# Altium schematic symbol library Module DC To DC.SchLib: 178 symbols (part 1 of 2)
Pins are listed as number, name and electrical type; pins without a type are passive.

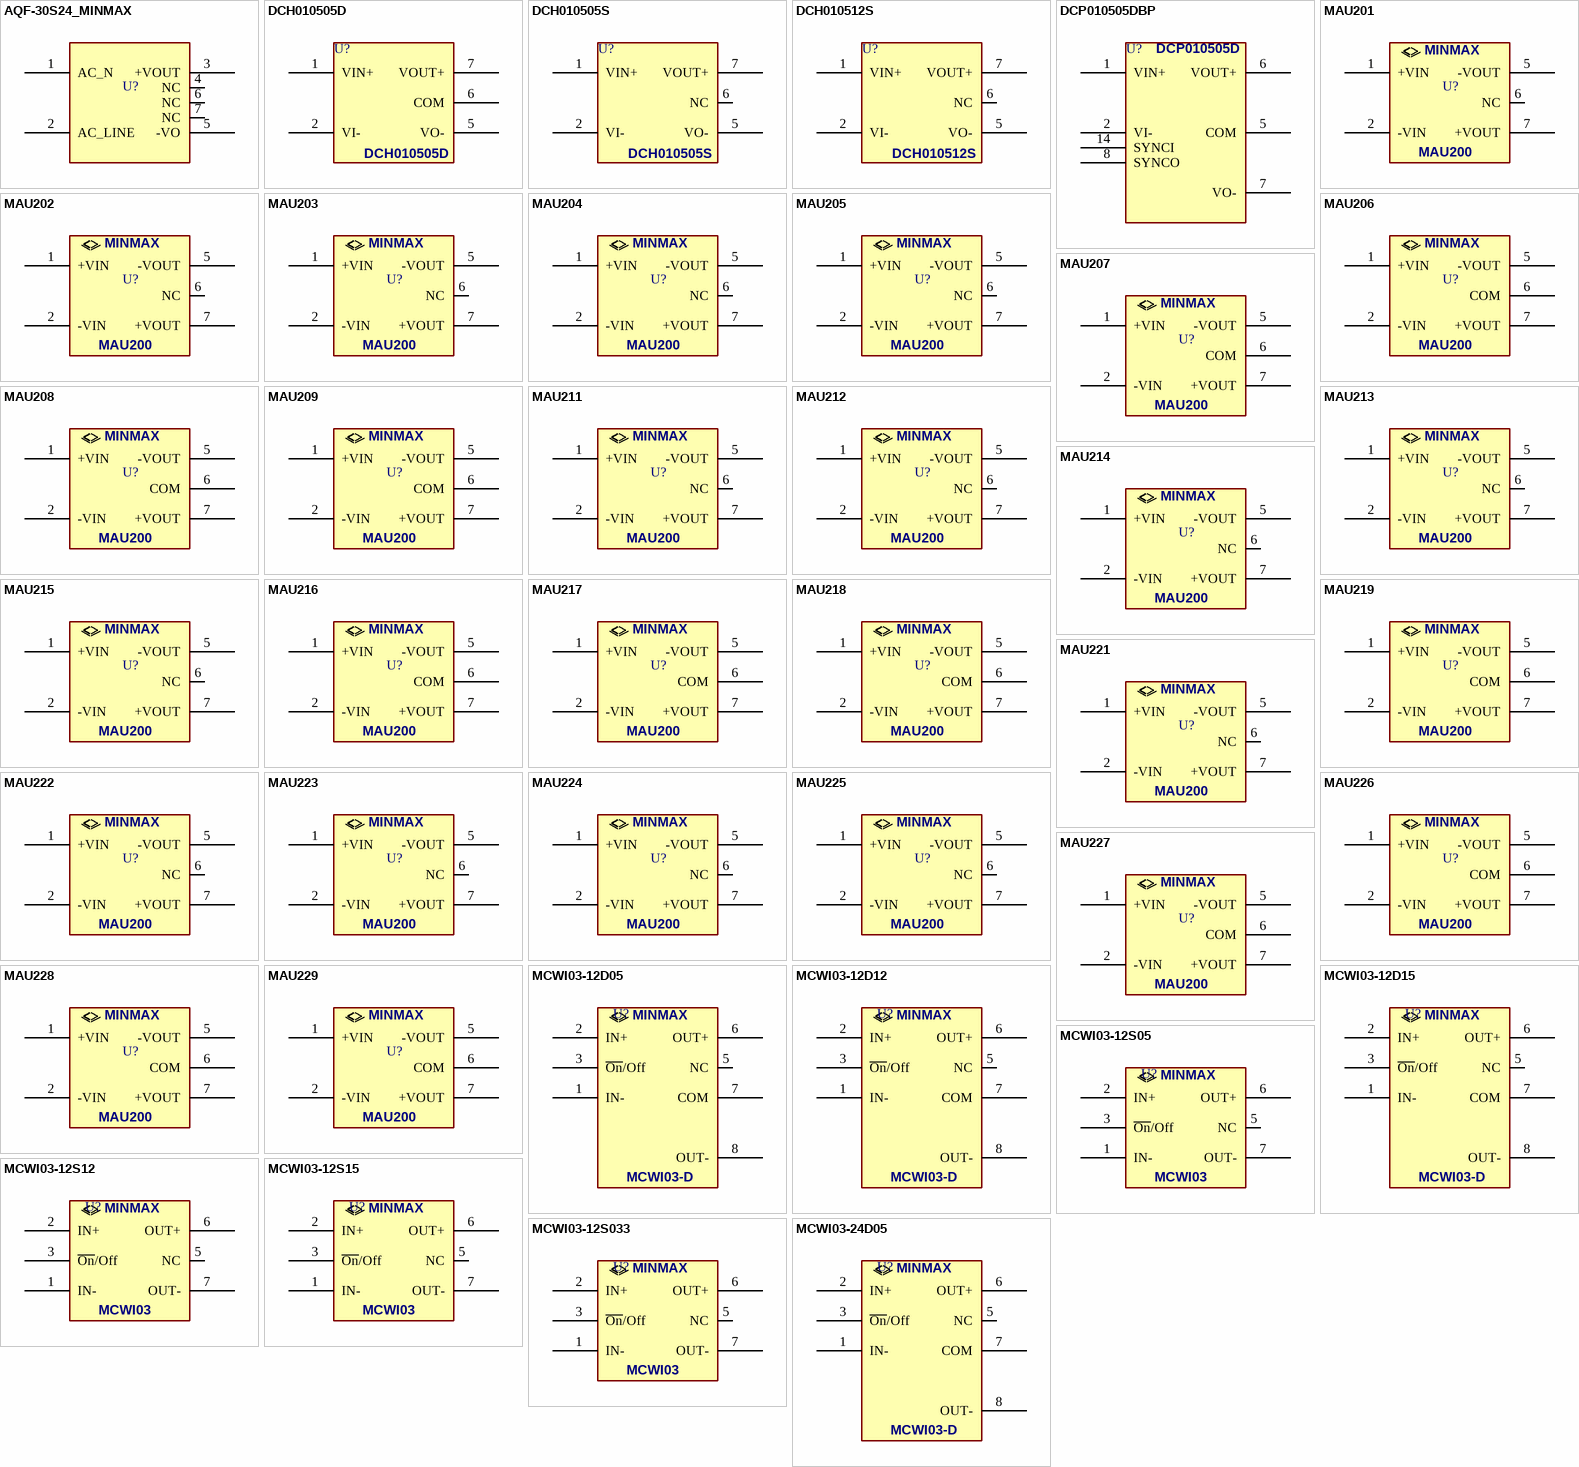
[diagram p0: symbols AQF-30S24_MINMAX to MCWI03-24D05]

## AQF-30S24_MINMAX
designator U?, comment AQF-30S24  (value not drawn)
AC/DC CONVERTER, no terminal; MANF: MINMAX; PARAM2: 24v, 30w; MANF_P#: AQF-30S24; VALUE: AQF-30S24
footprint MINMAX_AQF30 (DC-DC Module, AQF-30)
pins: 1 AC_N (power), 2 AC_LINE (power), 3 +VOUT (power), 4 NC (power), 5 -VO (power), 6 NC (power), 7 NC (power)

## DCH010505D
designator U?  (value not drawn)
DC-DC Converter, Isolated, 1W; MANF: Texas Instruments; DIST#: MOUSER/595-DCH010505SN7; PARAM2: 5Vin, ±5Vout, 1W; PARAM: ±100mA, -40~85°C; PRICE: 1= 7$; VALUE: DCH010505D; MANF_P#: DCH010505D
footprint EDJ_5 (EDJ R-PDSS-T5 TI 10X7.6mm)
pins: 1 VIN+ (power), 2 VI- (power), 5 VO- (power), 6 COM (power), 7 VOUT+ (power)

## DCH010505S
designator U?  (value not drawn)
DC-DC Converter, Isolated, 1W; MANF: Texas Instruments; DIST#: MOUSER/595-DCH010505SN7; MANF_P#: DCH010505SN7; PARAM2: 5Vin, 5Vout, 1W; PARAM: 200mA, -40~85°C; PRICE: 1= 7$; VALUE: DCH010505S
footprint EDJ_5 (EDJ R-PDSS-T5 TI 10X7.6mm)
pins: 1 VIN+ (power), 2 VI- (power), 5 VO- (power), 6 NC (power), 7 VOUT+ (power)

## DCH010512S
designator U?  (value not drawn)
DC-DC Converter, Isolated, 1W; MANF: Texas Instruments; DIST#: MOUSER/595-DCH010505SN7; PARAM2: 5Vin, 12Vout, 1W; PARAM: 83mA, -40~85°C; PRICE: 1= 7$; VALUE: DCH010512S; MANF_P#: DCH010512S
footprint EDJ_5 (EDJ R-PDSS-T5 TI 10X7.6mm)
pins: 1 VIN+ (power), 2 VI- (power), 5 VO- (power), 6 NC (power), 7 VOUT+ (power)

## DCP010505DBP
designator U?  (value not drawn)
DC-DC Converter, Isolated, 1W; MANF: Texas Instruments; DIST#: MOUSER/595-DCH010505SN7; PARAM2: 5Vin, ±5Vout, 1W; PARAM: ±100mA, -40~85°C; PRICE: 9$; VALUE: DCP010505DBP; MANF_P#: DCP010505DBP
footprint DIP_14_7 (DIP, pitch 2.54mm, 300mil Width)
pins: 1 VIN+ (power), 2 VI- (power), 5 COM (power), 6 VOUT+ (power), 7 VO- (power), 8 SYNCO, 14 SYNCI
text: DCP010505D

## MAU201
designator U?  (value not drawn)
DC-DC Converter, Isolated, 1W; MANF: MINMAX; PARAM2: 4.5~5.5(5)Vin, 3.3Vout, 1W; PARAM: 260mA, -40~85°C; DESC: https://www.minmax.com.tw/cn/download/files/228/MAU200_Datasheet.pdf; MANF_P#: MAU201; VALUE: MAU201
footprint MINMAX_MAU200 (DC-DC Module, MAU200)
pins: 1 +VIN, 2 -VIN, 5 -VOUT, 6 NC, 7 +VOUT
text: MAU200

## MAU202
designator U?  (value not drawn)
DC-DC Converter, Isolated, 1W; MANF: MINMAX; PARAM2: 4.5~5.5(5)Vin, 5Vout, 1W; PARAM: 200mA, -40~85°C; DESC: https://www.minmax.com.tw/cn/download/files/228/MAU200_Datasheet.pdf; MANF_P#: MAU202; VALUE: MAU202
footprint MINMAX_MAU200 (DC-DC Module, MAU200)
pins: 1 +VIN, 2 -VIN, 5 -VOUT, 6 NC, 7 +VOUT
text: MAU200

## MAU203
designator U?  (value not drawn)
DC-DC Converter, Isolated, 1W; MANF: MINMAX; PARAM2: 4.5~5.5(5)Vin, 9Vout, 1W; PARAM: 110mA, -40~85°C; DESC: https://www.minmax.com.tw/cn/download/files/228/MAU200_Datasheet.pdf; MANF_P#: MAU203; VALUE: MAU203
footprint MINMAX_MAU200 (DC-DC Module, MAU200)
pins: 1 +VIN, 2 -VIN, 5 -VOUT, 6 NC, 7 +VOUT
text: MAU200

## MAU204
designator U?  (value not drawn)
DC-DC Converter, Isolated, 1W; MANF: MINMAX; PARAM2: 4.5~5.5(5)Vin, 12Vout, 1W; PARAM: 84mA, -40~85°C; DESC: https://www.minmax.com.tw/cn/download/files/228/MAU200_Datasheet.pdf; MANF_P#: MAU204; VALUE: MAU204
footprint MINMAX_MAU200 (DC-DC Module, MAU200)
pins: 1 +VIN, 2 -VIN, 5 -VOUT, 6 NC, 7 +VOUT
text: MAU200

## MAU205
designator U?  (value not drawn)
DC-DC Converter, Isolated, 1W; MANF: MINMAX; PARAM2: 4.5~5.5(5)Vin, 15Vout, 1W; PARAM: 67mA, -40~85°C; DESC: https://www.minmax.com.tw/cn/download/files/228/MAU200_Datasheet.pdf; MANF_P#: MAU205; VALUE: MAU205
footprint MINMAX_MAU200 (DC-DC Module, MAU200)
pins: 1 +VIN, 2 -VIN, 5 -VOUT, 6 NC, 7 +VOUT
text: MAU200

## MAU206
designator U?  (value not drawn)
DC-DC Converter, Isolated, 1W; MANF: MINMAX; PARAM2: 4.5~5.5(5)Vin, ±5Vout, 1W; PARAM: ±100mA, -40~85°C; DESC: https://www.minmax.com.tw/cn/download/files/228/MAU200_Datasheet.pdf; MANF_P#: MAU206; VALUE: MAU206
footprint MINMAX_MAU200 (DC-DC Module, MAU200)
pins: 1 +VIN, 2 -VIN, 5 -VOUT, 6 COM, 7 +VOUT
text: MAU200

## MAU207
designator U?  (value not drawn)
DC-DC Converter, Isolated, 1W; MANF: MINMAX; PARAM2: 4.5~5.5(5)Vin, ±9Vout, 1W; PARAM: ±56mA, -40~85°C; DESC: https://www.minmax.com.tw/cn/download/files/228/MAU200_Datasheet.pdf; MANF_P#: MAU207; VALUE: MAU207
footprint MINMAX_MAU200 (DC-DC Module, MAU200)
pins: 1 +VIN, 2 -VIN, 5 -VOUT, 6 COM, 7 +VOUT
text: MAU200

## MAU208
designator U?  (value not drawn)
DC-DC Converter, Isolated, 1W; MANF: MINMAX; PARAM2: 4.5~5.5(5)Vin, ±12Vout, 1W; PARAM: ±42mA, -40~85°C; DESC: https://www.minmax.com.tw/cn/download/files/228/MAU200_Datasheet.pdf; MANF_P#: MAU208; VALUE: MAU208
footprint MINMAX_MAU200 (DC-DC Module, MAU200)
pins: 1 +VIN, 2 -VIN, 5 -VOUT, 6 COM, 7 +VOUT
text: MAU200

## MAU209
designator U?  (value not drawn)
DC-DC Converter, Isolated, 1W; MANF: MINMAX; PARAM2: 4.5~5.5(5)Vin, ±15Vout, 1W; PARAM: ±34mA, -40~85°C; DESC: https://www.minmax.com.tw/cn/download/files/228/MAU200_Datasheet.pdf; MANF_P#: MAU209; VALUE: MAU209
footprint MINMAX_MAU200 (DC-DC Module, MAU200)
pins: 1 +VIN, 2 -VIN, 5 -VOUT, 6 COM, 7 +VOUT
text: MAU200

## MAU211
designator U?  (value not drawn)
DC-DC Converter, Isolated, 1W; MANF: MINMAX; PARAM2: 10.8~13.2(12)Vin, 3.3Vout, 1W; PARAM: 260mA, -40~85°C; DESC: https://www.minmax.com.tw/cn/download/files/228/MAU200_Datasheet.pdf; MANF_P#: MAU211; VALUE: MAU211
footprint MINMAX_MAU200 (DC-DC Module, MAU200)
pins: 1 +VIN, 2 -VIN, 5 -VOUT, 6 NC, 7 +VOUT
text: MAU200

## MAU212
designator U?  (value not drawn)
DC-DC Converter, Isolated, 1W; MANF: MINMAX; PARAM2: 10.8~13.2(12)Vin, 5Vout, 1W; PARAM: 200mA, -40~85°C; DESC: https://www.minmax.com.tw/cn/download/files/228/MAU200_Datasheet.pdf; MANF_P#: MAU212; VALUE: MAU212
footprint MINMAX_MAU200 (DC-DC Module, MAU200)
pins: 1 +VIN, 2 -VIN, 5 -VOUT, 6 NC, 7 +VOUT
text: MAU200

## MAU213
designator U?  (value not drawn)
DC-DC Converter, Isolated, 1W; MANF: MINMAX; PARAM2: 10.8~13.2(12)Vin, 9Vout, 1W; PARAM: 110mA, -40~85°C; DESC: https://www.minmax.com.tw/cn/download/files/228/MAU200_Datasheet.pdf; MANF_P#: MAU213; VALUE: MAU213
footprint MINMAX_MAU200 (DC-DC Module, MAU200)
pins: 1 +VIN, 2 -VIN, 5 -VOUT, 6 NC, 7 +VOUT
text: MAU200

## MAU214
designator U?  (value not drawn)
DC-DC Converter, Isolated, 1W; MANF: MINMAX; PARAM2: 10.8~13.2(12)Vin, 12Vout, 1W; PARAM: 84mA, -40~85°C; DESC: https://www.minmax.com.tw/cn/download/files/228/MAU200_Datasheet.pdf; MANF_P#: MAU214; VALUE: MAU214
footprint MINMAX_MAU200 (DC-DC Module, MAU200)
pins: 1 +VIN, 2 -VIN, 5 -VOUT, 6 NC, 7 +VOUT
text: MAU200

## MAU215
designator U?  (value not drawn)
DC-DC Converter, Isolated, 1W; MANF: MINMAX; PARAM2: 10.8~13.2(12)Vin, 15Vout, 1W; PARAM: 67mA, -40~85°C; DESC: https://www.minmax.com.tw/cn/download/files/228/MAU200_Datasheet.pdf; MANF_P#: MAU215; VALUE: MAU215
footprint MINMAX_MAU200 (DC-DC Module, MAU200)
pins: 1 +VIN, 2 -VIN, 5 -VOUT, 6 NC, 7 +VOUT
text: MAU200

## MAU216
designator U?  (value not drawn)
DC-DC Converter, Isolated, 1W; MANF: MINMAX; PARAM2: 10.8~13.2(12)Vin, ±5Vout, 1W; PARAM: ±100mA, -40~85°C; DESC: https://www.minmax.com.tw/cn/download/files/228/MAU200_Datasheet.pdf; MANF_P#: MAU216; VALUE: MAU216
footprint MINMAX_MAU200 (DC-DC Module, MAU200)
pins: 1 +VIN, 2 -VIN, 5 -VOUT, 6 COM, 7 +VOUT
text: MAU200

## MAU217
designator U?  (value not drawn)
DC-DC Converter, Isolated, 1W; MANF: MINMAX; PARAM2: 10.8~13.2(12)Vin, ±9Vout, 1W; PARAM: ±56mA, -40~85°C; DESC: https://www.minmax.com.tw/cn/download/files/228/MAU200_Datasheet.pdf; MANF_P#: MAU217; VALUE: MAU217
footprint MINMAX_MAU200 (DC-DC Module, MAU200)
pins: 1 +VIN, 2 -VIN, 5 -VOUT, 6 COM, 7 +VOUT
text: MAU200

## MAU218
designator U?  (value not drawn)
DC-DC Converter, Isolated, 1W; MANF: MINMAX; PARAM2: 10.8~13.2(12)Vin, ±12Vout, 1W; PARAM: ±42mA, -40~85°C; DESC: https://www.minmax.com.tw/cn/download/files/228/MAU200_Datasheet.pdf; MANF_P#: MAU218; VALUE: MAU218
footprint MINMAX_MAU200 (DC-DC Module, MAU200)
pins: 1 +VIN, 2 -VIN, 5 -VOUT, 6 COM, 7 +VOUT
text: MAU200

## MAU219
designator U?  (value not drawn)
DC-DC Converter, Isolated, 1W; MANF: MINMAX; PARAM2: 10.8~13.2(12)Vin, ±15Vout, 1W; PARAM: ±34mA, -40~85°C; DESC: https://www.minmax.com.tw/cn/download/files/228/MAU200_Datasheet.pdf; MANF_P#: MAU219; VALUE: MAU219
footprint MINMAX_MAU200 (DC-DC Module, MAU200)
pins: 1 +VIN, 2 -VIN, 5 -VOUT, 6 COM, 7 +VOUT
text: MAU200

## MAU221
designator U?  (value not drawn)
DC-DC Converter, Isolated, 1W; MANF: MINMAX; PARAM2: 21.6~26.4(24)Vin, 3.3Vout, 1W; PARAM: 260mA, -40~85°C; DESC: https://www.minmax.com.tw/cn/download/files/228/MAU200_Datasheet.pdf; MANF_P#: MAU221; VALUE: MAU221
footprint MINMAX_MAU200 (DC-DC Module, MAU200)
pins: 1 +VIN, 2 -VIN, 5 -VOUT, 6 NC, 7 +VOUT
text: MAU200

## MAU222
designator U?  (value not drawn)
DC-DC Converter, Isolated, 1W; MANF: MINMAX; PARAM2: 21.6~26.4(24)Vin, 5Vout, 1W; PARAM: 200mA, -40~85°C; DESC: https://www.minmax.com.tw/cn/download/files/228/MAU200_Datasheet.pdf; MANF_P#: MAU222; VALUE: MAU222
footprint MINMAX_MAU200 (DC-DC Module, MAU200)
pins: 1 +VIN, 2 -VIN, 5 -VOUT, 6 NC, 7 +VOUT
text: MAU200

## MAU223
designator U?  (value not drawn)
DC-DC Converter, Isolated, 1W; MANF: MINMAX; PARAM2: 21.6~26.4(24)Vin, 9Vout, 1W; PARAM: 110mA, -40~85°C; DESC: https://www.minmax.com.tw/cn/download/files/228/MAU200_Datasheet.pdf; MANF_P#: MAU223; VALUE: MAU223
footprint MINMAX_MAU200 (DC-DC Module, MAU200)
pins: 1 +VIN, 2 -VIN, 5 -VOUT, 6 NC, 7 +VOUT
text: MAU200

## MAU224
designator U?  (value not drawn)
DC-DC Converter, Isolated, 1W; MANF: MINMAX; PARAM2: 21.6~26.4(24)Vin, 12Vout, 1W; PARAM: 84mA, -40~85°C; DESC: https://www.minmax.com.tw/cn/download/files/228/MAU200_Datasheet.pdf; MANF_P#: MAU224; VALUE: MAU224
footprint MINMAX_MAU200 (DC-DC Module, MAU200)
pins: 1 +VIN, 2 -VIN, 5 -VOUT, 6 NC, 7 +VOUT
text: MAU200

## MAU225
designator U?  (value not drawn)
DC-DC Converter, Isolated, 1W; MANF: MINMAX; PARAM2: 21.6~26.4(24)Vin, 15Vout, 1W; PARAM: 67mA, -40~85°C; DESC: https://www.minmax.com.tw/cn/download/files/228/MAU200_Datasheet.pdf; MANF_P#: MAU225; VALUE: MAU225
footprint MINMAX_MAU200 (DC-DC Module, MAU200)
pins: 1 +VIN, 2 -VIN, 5 -VOUT, 6 NC, 7 +VOUT
text: MAU200

## MAU226
designator U?  (value not drawn)
DC-DC Converter, Isolated, 1W; MANF: MINMAX; PARAM2: 21.6~26.4(24)Vin, ±5Vout, 1W; PARAM: ±100mA, -40~85°C; DESC: https://www.minmax.com.tw/cn/download/files/228/MAU200_Datasheet.pdf; MANF_P#: MAU226; VALUE: MAU226
footprint MINMAX_MAU200 (DC-DC Module, MAU200)
pins: 1 +VIN, 2 -VIN, 5 -VOUT, 6 COM, 7 +VOUT
text: MAU200

## MAU227
designator U?  (value not drawn)
DC-DC Converter, Isolated, 1W; MANF: MINMAX; PARAM2: 21.6~26.4(24)Vin, ±9Vout, 1W; PARAM: ±56mA, -40~85°C; DESC: https://www.minmax.com.tw/cn/download/files/228/MAU200_Datasheet.pdf; MANF_P#: MAU227; VALUE: MAU227
footprint MINMAX_MAU200 (DC-DC Module, MAU200)
pins: 1 +VIN, 2 -VIN, 5 -VOUT, 6 COM, 7 +VOUT
text: MAU200

## MAU228
designator U?  (value not drawn)
DC-DC Converter, Isolated, 1W; MANF: MINMAX; PARAM2: 21.6~26.4(24)Vin, ±12Vout, 1W; PARAM: ±42mA, -40~85°C; DESC: https://www.minmax.com.tw/cn/download/files/228/MAU200_Datasheet.pdf; MANF_P#: MAU228; VALUE: MAU228
footprint MINMAX_MAU200 (DC-DC Module, MAU200)
pins: 1 +VIN, 2 -VIN, 5 -VOUT, 6 COM, 7 +VOUT
text: MAU200

## MAU229
designator U?  (value not drawn)
DC-DC Converter, Isolated, 1W; MANF: MINMAX; PARAM2: 21.6~26.4(24)Vin, ±15Vout, 1W; PARAM: ±34mA, -40~85°C; DESC: https://www.minmax.com.tw/cn/download/files/228/MAU200_Datasheet.pdf; MANF_P#: MAU229; VALUE: MAU229
footprint MINMAX_MAU200 (DC-DC Module, MAU200)
pins: 1 +VIN, 2 -VIN, 5 -VOUT, 6 COM, 7 +VOUT
text: MAU200

## MCWI03-12D05
designator U?  (value not drawn)
DC-DC Converter, Isolated, 3W; MANF: MINMAX; PARAM2: 4.5~18(12)Vin, ±5Vout, 3W; PARAM: ±300mA, -40~85°C; DESC: https://www.minmax.com.tw/en/download/files/307/MCWI03_Datasheet.pdf; MANF_P#: MCWI03-12D05; VALUE: MCWI03-12D05
footprint MINMAX_MCWI03
pins: 1 IN- (power), 2 IN+ (power), 3 ~{On}/Off, 5 NC (power), 6 OUT+ (power), 7 COM (power), 8 OUT- (power)
text: MCWI03-D

## MCWI03-12D12
designator U?  (value not drawn)
DC-DC Converter, Isolated, 3W; MANF: MINMAX; PARAM2: 4.5~18(12)Vin, ±12Vout, 3W; PARAM: ±125mA, -40~85°C; DESC: https://www.minmax.com.tw/en/download/files/307/MCWI03_Datasheet.pdf; MANF_P#: MCWI03-12D12; VALUE: MCWI03-12D12
footprint MINMAX_MCWI03
pins: 1 IN- (power), 2 IN+ (power), 3 ~{On}/Off, 5 NC (power), 6 OUT+ (power), 7 COM (power), 8 OUT- (power)
text: MCWI03-D

## MCWI03-12D15
designator U?  (value not drawn)
DC-DC Converter, Isolated, 3W; MANF: MINMAX; PARAM2: 4.5~18(12)Vin, ±15Vout, 3W; PARAM: ±100mA, -40~85°C; DESC: https://www.minmax.com.tw/en/download/files/307/MCWI03_Datasheet.pdf; MANF_P#: MCWI03-12D15; VALUE: MCWI03-12D15
footprint MINMAX_MCWI03
pins: 1 IN- (power), 2 IN+ (power), 3 ~{On}/Off, 5 NC (power), 6 OUT+ (power), 7 COM (power), 8 OUT- (power)
text: MCWI03-D

## MCWI03-12S05
designator U?  (value not drawn)
DC-DC Converter, Isolated, 3W; MANF: MINMAX; PARAM2: 4.5~18(12)Vin, 5Vout, 3W; PARAM: 600mA, -40~85°C; DESC: https://www.minmax.com.tw/en/download/files/307/MCWI03_Datasheet.pdf; MANF_P#: MCWI03-12S05; VALUE: MCWI03-12S05
footprint MINMAX_MCWI03
pins: 1 IN- (power), 2 IN+ (power), 3 ~{On}/Off, 5 NC (power), 6 OUT+ (power), 7 OUT- (power)
text: MCWI03

## MCWI03-12S12
designator U?  (value not drawn)
DC-DC Converter, Isolated, 3W; MANF: MINMAX; PARAM2: 4.5~18(12)Vin, 12Vout, 3W; PARAM: 250mA, -40~85°C; DESC: https://www.minmax.com.tw/en/download/files/307/MCWI03_Datasheet.pdf; MANF_P#: MCWI03-12S12; VALUE: MCWI03-12S12
footprint MINMAX_MCWI03
pins: 1 IN- (power), 2 IN+ (power), 3 ~{On}/Off, 5 NC (power), 6 OUT+ (power), 7 OUT- (power)
text: MCWI03

## MCWI03-12S15
designator U?  (value not drawn)
DC-DC Converter, Isolated, 3W; MANF: MINMAX; PARAM2: 4.5~18(12)Vin, 15Vout, 3W; PARAM: 200mA, -40~85°C; DESC: https://www.minmax.com.tw/en/download/files/307/MCWI03_Datasheet.pdf; MANF_P#: MCWI03-12S15; VALUE: MCWI03-12S15
footprint MINMAX_MCWI03
pins: 1 IN- (power), 2 IN+ (power), 3 ~{On}/Off, 5 NC (power), 6 OUT+ (power), 7 OUT- (power)
text: MCWI03

## MCWI03-12S033
designator U?  (value not drawn)
DC-DC Converter, Isolated, 3W; MANF: MINMAX; PARAM2: 4.5~18(12)Vin, 3.3Vout, 3W; PARAM: 700mA, -40~85°C; DESC: https://www.minmax.com.tw/en/download/files/307/MCWI03_Datasheet.pdf; MANF_P#: MCWI03-12S033; VALUE: MCWI03-12S033
footprint MINMAX_MCWI03
pins: 1 IN- (power), 2 IN+ (power), 3 ~{On}/Off, 5 NC (power), 6 OUT+ (power), 7 OUT- (power)
text: MCWI03

## MCWI03-24D05
designator U?  (value not drawn)
DC-DC Converter, Isolated, 3W; MANF: MINMAX; PARAM2: 9~36(24)Vin, ±5Vout, 3W; PARAM: ±300mA, -40~85°C; DESC: https://www.minmax.com.tw/en/download/files/307/MCWI03_Datasheet.pdf; MANF_P#: MCWI03-24D05; VALUE: MCWI03-24D05
footprint MINMAX_MCWI03
pins: 1 IN- (power), 2 IN+ (power), 3 ~{On}/Off, 5 NC (power), 6 OUT+ (power), 7 COM (power), 8 OUT- (power)
text: MCWI03-D

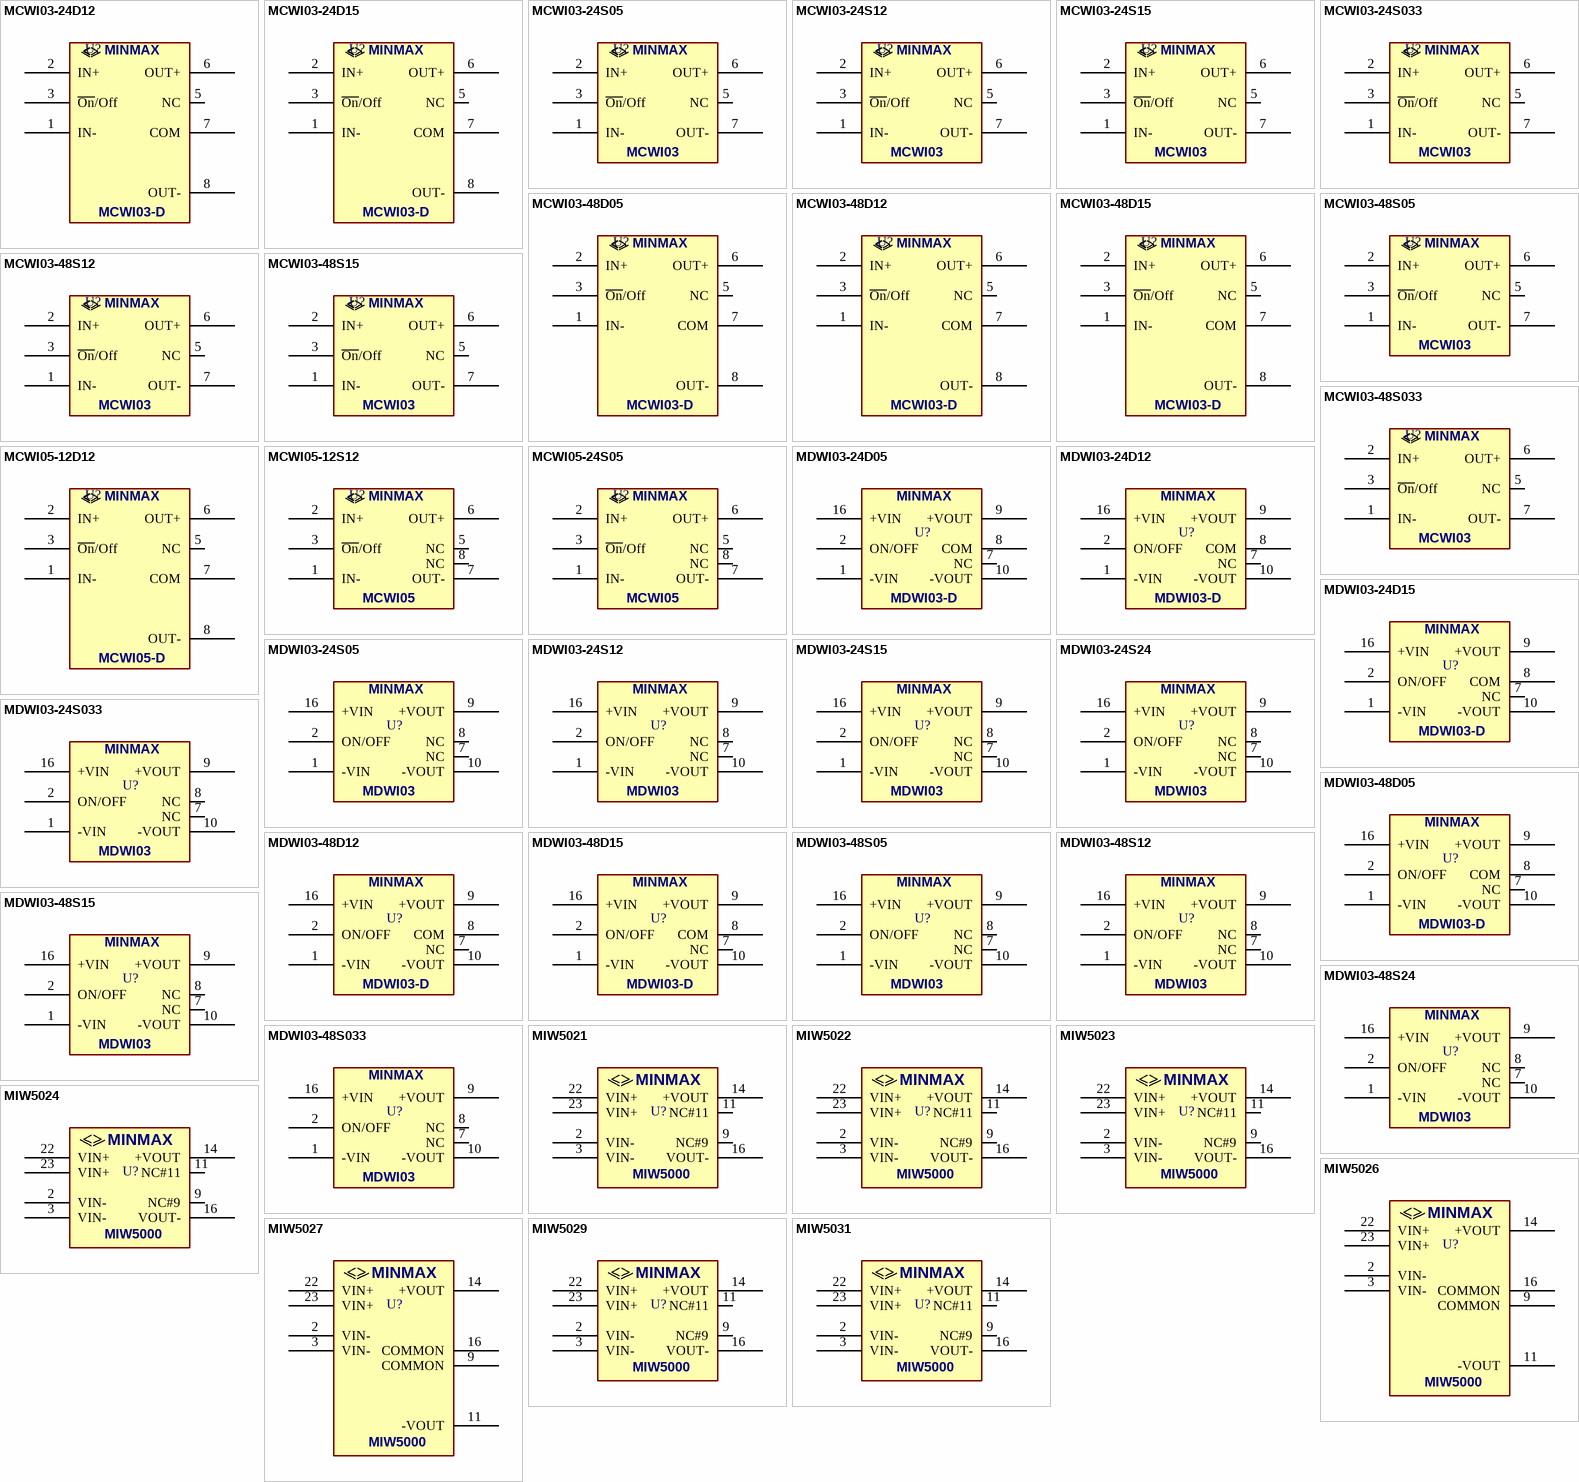
[diagram p1: symbols MCWI03-24D12 to MIW5031]

## MCWI03-24D12
designator U?  (value not drawn)
DC-DC Converter, Isolated, 3W; MANF: MINMAX; PARAM2: 9~36(24)Vin, ±12Vout, 3W; PARAM: ±125mA, -40~85°C; DESC: https://www.minmax.com.tw/en/download/files/307/MCWI03_Datasheet.pdf; MANF_P#: MCWI03-24D12; VALUE: MCWI03-24D12
footprint MINMAX_MCWI03
pins: 1 IN- (power), 2 IN+ (power), 3 ~{On}/Off, 5 NC (power), 6 OUT+ (power), 7 COM (power), 8 OUT- (power)
text: MCWI03-D

## MCWI03-24D15
designator U?  (value not drawn)
DC-DC Converter, Isolated, 3W; MANF: MINMAX; PARAM2: 9~36(24)Vin, ±15Vout, 3W; PARAM: ±100mA, -40~85°C; DESC: https://www.minmax.com.tw/en/download/files/307/MCWI03_Datasheet.pdf; MANF_P#: MCWI03-24D15; VALUE: MCWI03-24D15
footprint MINMAX_MCWI03
pins: 1 IN- (power), 2 IN+ (power), 3 ~{On}/Off, 5 NC (power), 6 OUT+ (power), 7 COM (power), 8 OUT- (power)
text: MCWI03-D

## MCWI03-24S05
designator U?  (value not drawn)
DC-DC Converter, Isolated, 3W; MANF: MINMAX; PARAM2: 9~36(24)Vin, 5Vout, 3W; PARAM: 600mA, -40~85°C; DESC: https://www.minmax.com.tw/en/download/files/307/MCWI03_Datasheet.pdf; MANF_P#: MCWI03-24S05; VALUE: MCWI03-24S05
footprint MINMAX_MCWI03
pins: 1 IN- (power), 2 IN+ (power), 3 ~{On}/Off, 5 NC (power), 6 OUT+ (power), 7 OUT- (power)
text: MCWI03

## MCWI03-24S12
designator U?  (value not drawn)
DC-DC Converter, Isolated, 3W; MANF: MINMAX; PARAM2: 9~36(24)Vin, 12Vout, 3W; PARAM: 250mA, -40~85°C; DESC: https://www.minmax.com.tw/en/download/files/307/MCWI03_Datasheet.pdf; MANF_P#: MCWI03-24S12; VALUE: MCWI03-24S12
footprint MINMAX_MCWI03
pins: 1 IN- (power), 2 IN+ (power), 3 ~{On}/Off, 5 NC (power), 6 OUT+ (power), 7 OUT- (power)
text: MCWI03

## MCWI03-24S15
designator U?  (value not drawn)
DC-DC Converter, Isolated, 3W; MANF: MINMAX; PARAM2: 9~36(24)Vin, 15Vout, 3W; PARAM: 200mA, -40~85°C; DESC: https://www.minmax.com.tw/en/download/files/307/MCWI03_Datasheet.pdf; MANF_P#: MCWI03-24S15; VALUE: MCWI03-24S15
footprint MINMAX_MCWI03
pins: 1 IN- (power), 2 IN+ (power), 3 ~{On}/Off, 5 NC (power), 6 OUT+ (power), 7 OUT- (power)
text: MCWI03

## MCWI03-24S033
designator U?  (value not drawn)
DC-DC Converter, Isolated, 3W; MANF: MINMAX; PARAM2: 9~36(24)Vin, 3.3Vout, 3W; PARAM: 700mA, -40~85°C; DESC: https://www.minmax.com.tw/en/download/files/307/MCWI03_Datasheet.pdf; MANF_P#: MCWI03-24S033; VALUE: MCWI03-24S033
footprint MINMAX_MCWI03
pins: 1 IN- (power), 2 IN+ (power), 3 ~{On}/Off, 5 NC (power), 6 OUT+ (power), 7 OUT- (power)
text: MCWI03

## MCWI03-48D05
designator U?  (value not drawn)
DC-DC Converter, Isolated, 3W; MANF: MINMAX; PARAM2: 18~75(48)Vin, ±5Vout, 3W; PARAM: ±300mA, -40~85°C; DESC: https://www.minmax.com.tw/en/download/files/307/MCWI03_Datasheet.pdf; MANF_P#: MCWI03-48D05; VALUE: MCWI03-48D05
footprint MINMAX_MCWI03
pins: 1 IN- (power), 2 IN+ (power), 3 ~{On}/Off, 5 NC (power), 6 OUT+ (power), 7 COM (power), 8 OUT- (power)
text: MCWI03-D

## MCWI03-48D12
designator U?  (value not drawn)
DC-DC Converter, Isolated, 3W; MANF: MINMAX; PARAM2: 18~75(48)Vin, ±12Vout, 3W; PARAM: ±125mA, -40~85°C; DESC: https://www.minmax.com.tw/en/download/files/307/MCWI03_Datasheet.pdf; MANF_P#: MCWI03-48D12; VALUE: MCWI03-48D12
footprint MINMAX_MCWI03
pins: 1 IN- (power), 2 IN+ (power), 3 ~{On}/Off, 5 NC (power), 6 OUT+ (power), 7 COM (power), 8 OUT- (power)
text: MCWI03-D

## MCWI03-48D15
designator U?  (value not drawn)
DC-DC Converter, Isolated, 3W; MANF: MINMAX; PARAM2: 18~75(48)Vin, ±15Vout, 3W; PARAM: ±100mA, -40~85°C; DESC: https://www.minmax.com.tw/en/download/files/307/MCWI03_Datasheet.pdf; MANF_P#: MCWI03-48D15; VALUE: MCWI03-48D15
footprint MINMAX_MCWI03
pins: 1 IN- (power), 2 IN+ (power), 3 ~{On}/Off, 5 NC (power), 6 OUT+ (power), 7 COM (power), 8 OUT- (power)
text: MCWI03-D

## MCWI03-48S05
designator U?  (value not drawn)
DC-DC Converter, Isolated, 3W; MANF: MINMAX; PARAM2: 18~75(48)Vin, 5Vout, 3W; PARAM: 600mA, -40~85°C; DESC: https://www.minmax.com.tw/en/download/files/307/MCWI03_Datasheet.pdf; MANF_P#: MCWI03-48S05; VALUE: MCWI03-48S05
footprint MINMAX_MCWI03
pins: 1 IN- (power), 2 IN+ (power), 3 ~{On}/Off, 5 NC (power), 6 OUT+ (power), 7 OUT- (power)
text: MCWI03

## MCWI03-48S12
designator U?  (value not drawn)
DC-DC Converter, Isolated, 3W; MANF: MINMAX; PARAM2: 18~75(48)Vin, 12Vout, 3W; PARAM: 250mA, -40~85°C; DESC: https://www.minmax.com.tw/en/download/files/307/MCWI03_Datasheet.pdf; MANF_P#: MCWI03-48S12; VALUE: MCWI03-48S12
footprint MINMAX_MCWI03
pins: 1 IN- (power), 2 IN+ (power), 3 ~{On}/Off, 5 NC (power), 6 OUT+ (power), 7 OUT- (power)
text: MCWI03

## MCWI03-48S15
designator U?  (value not drawn)
DC-DC Converter, Isolated, 3W; MANF: MINMAX; PARAM2: 18~75(48)Vin, 15Vout, 3W; PARAM: 200mA, -40~85°C; DESC: https://www.minmax.com.tw/en/download/files/307/MCWI03_Datasheet.pdf; MANF_P#: MCWI03-48S15; VALUE: MCWI03-48S15
footprint MINMAX_MCWI03
pins: 1 IN- (power), 2 IN+ (power), 3 ~{On}/Off, 5 NC (power), 6 OUT+ (power), 7 OUT- (power)
text: MCWI03

## MCWI03-48S033
designator U?  (value not drawn)
DC-DC Converter, Isolated, 3W; MANF: MINMAX; PARAM2: 18~75(48)Vin, 3.3Vout, 3W; PARAM: 700mA, -40~85°C; DESC: https://www.minmax.com.tw/en/download/files/307/MCWI03_Datasheet.pdf; MANF_P#: MCWI03-48S033; VALUE: MCWI03-48S033
footprint MINMAX_MCWI03
pins: 1 IN- (power), 2 IN+ (power), 3 ~{On}/Off, 5 NC (power), 6 OUT+ (power), 7 OUT- (power)
text: MCWI03

## MCWI05-12D12
designator U?  (value not drawn)
DC-DC Converter, Isolated, 5W; MANF: MINMAX; PARAM2: 4.5~18(12)Vin, ±12Vout, 5W; PARAM: 209mA, -40~75°C; DESC: https://www.minmax.com.tw/en/download/files/1509/MCWI05_Datasheet.pdf; MANF_P#: MCWI05-12D12; PRICE: 70000t; VALUE: MCWI05-12D12
footprint MINMAX_MCWI03
pins: 1 IN- (power), 2 IN+ (power), 3 ~{On}/Off, 5 NC (power), 6 OUT+ (power), 7 COM (power), 8 OUT- (power)
text: MCWI05-D

## MCWI05-12S12
designator U?  (value not drawn)
DC-DC Converter, Isolated, 5W; MANF: MINMAX; PARAM2: 4.5~18(12)Vin, 12Vout, 5W; PARAM: 417mA, -40~75°C; DESC: https://www.minmax.com.tw/en/download/files/1509/MCWI05_Datasheet.pdf; MANF_P#: MCWI05-12S12; PRICE: 70000t; VALUE: MCWI05-12S12
footprint MINMAX_MCWI03
pins: 1 IN- (power), 2 IN+ (power), 3 ~{On}/Off, 5 NC (power), 6 OUT+ (power), 7 OUT- (power), 8 NC (power)
text: MCWI05

## MCWI05-24S05
designator U?  (value not drawn)
DC-DC Converter, Isolated, 5W; MANF: MINMAX; PARAM2: 9~36(24)Vin, 5Vout, 5W; PARAM: 417mA, -40~75°C; DESC: https://www.minmax.com.tw/en/download/files/1509/MCWI05_Datasheet.pdf; MANF_P#: MCWI05-24S05; PRICE: 70000t; VALUE: MCWI05-24S05
footprint MINMAX_MCWI03
pins: 1 IN- (power), 2 IN+ (power), 3 ~{On}/Off, 5 NC (power), 6 OUT+ (power), 7 OUT- (power), 8 NC (power)
text: MCWI05

## MDWI03-24D05
designator U?  (value not drawn)
DC-DC Converter, Isolated, 3W; MANF: MINMAX; PARAM2: 9~36(24)Vin, ±5Vout, 3W; PARAM: ±300mA, -40~85°C; DESC: https://www.minmax.com.tw/en/download/files/456/MDWI03_Datasheet.pdf; MANF_P#: MDWI03-24D05; VALUE: MDWI03-24D05
footprint MINMAX_MDWI03 (DC-DC Module, MINMAX MDWI03)
pins: 1 -VIN, 2 ON/OFF, 7 NC, 8 COM, 9 +VOUT, 10 -VOUT, 16 +VIN
text: MDWI03-D

## MDWI03-24D12
designator U?  (value not drawn)
DC-DC Converter, Isolated, 3W; MANF: MINMAX; PARAM2: 9~36(24)Vin, ±12Vout, 3W; PARAM: ±125mA, -40~85°C; DESC: https://www.minmax.com.tw/en/download/files/456/MDWI03_Datasheet.pdf; MANF_P#: MDWI03-24D12; VALUE: MDWI03-24D12
footprint MINMAX_MDWI03 (DC-DC Module, MINMAX MDWI03)
pins: 1 -VIN, 2 ON/OFF, 7 NC, 8 COM, 9 +VOUT, 10 -VOUT, 16 +VIN
text: MDWI03-D

## MDWI03-24D15
designator U?  (value not drawn)
DC-DC Converter, Isolated, 3W; MANF: MINMAX; PARAM2: 9~36(24)Vin, ±15Vout, 3W; PARAM: ±100mA, -40~85°C; DESC: https://www.minmax.com.tw/en/download/files/456/MDWI03_Datasheet.pdf; MANF_P#: MDWI03-24D15; VALUE: MDWI03-24D15
footprint MINMAX_MDWI03 (DC-DC Module, MINMAX MDWI03)
pins: 1 -VIN, 2 ON/OFF, 7 NC, 8 COM, 9 +VOUT, 10 -VOUT, 16 +VIN
text: MDWI03-D

## MDWI03-24S05
designator U?  (value not drawn)
DC-DC Converter, Isolated, 3W; MANF: MINMAX; PARAM2: 9~36(24)Vin, 5Vout, 3W; PARAM: 600mA, -40~85°C; DESC: https://www.minmax.com.tw/en/download/files/456/MDWI03_Datasheet.pdf; MANF_P#: MDWI03-24S05; VALUE: MDWI03-24S05
footprint MINMAX_MDWI03 (DC-DC Module, MINMAX MDWI03)
pins: 1 -VIN, 2 ON/OFF, 7 NC, 8 NC, 9 +VOUT, 10 -VOUT, 16 +VIN
text: MDWI03

## MDWI03-24S12
designator U?  (value not drawn)
DC-DC Converter, Isolated, 3W; MANF: MINMAX; PARAM2: 9~36(24)Vin, 12Vout, 3W; PARAM: 250mA, -40~85°C; DESC: https://www.minmax.com.tw/en/download/files/456/MDWI03_Datasheet.pdf; MANF_P#: MDWI03-24S12; VALUE: MDWI03-24S12
footprint MINMAX_MDWI03 (DC-DC Module, MINMAX MDWI03)
pins: 1 -VIN, 2 ON/OFF, 7 NC, 8 NC, 9 +VOUT, 10 -VOUT, 16 +VIN
text: MDWI03

## MDWI03-24S15
designator U?  (value not drawn)
DC-DC Converter, Isolated, 3W; MANF: MINMAX; PARAM2: 9~36(24)Vin, 15Vout, 3W; PARAM: 200mA, -40~85°C; DESC: https://www.minmax.com.tw/en/download/files/456/MDWI03_Datasheet.pdf; MANF_P#: MDWI03-24S15; VALUE: MDWI03-24S15
footprint MINMAX_MDWI03 (DC-DC Module, MINMAX MDWI03)
pins: 1 -VIN, 2 ON/OFF, 7 NC, 8 NC, 9 +VOUT, 10 -VOUT, 16 +VIN
text: MDWI03

## MDWI03-24S24
designator U?  (value not drawn)
DC-DC Converter, Isolated, 3W; MANF: MINMAX; PARAM2: 9~36(24)Vin, 24Vout, 3W; PARAM: 125mA, -40~85°C; DESC: https://www.minmax.com.tw/en/download/files/456/MDWI03_Datasheet.pdf; MANF_P#: MDWI03-24S24; VALUE: MDWI03-24S24
footprint MINMAX_MDWI03 (DC-DC Module, MINMAX MDWI03)
pins: 1 -VIN, 2 ON/OFF, 7 NC, 8 NC, 9 +VOUT, 10 -VOUT, 16 +VIN
text: MDWI03

## MDWI03-24S033
designator U?  (value not drawn)
DC-DC Converter, Isolated, 3W; MANF: MINMAX; PARAM2: 9~36(24)Vin, 3.3Vout, 3W; PARAM: 600mA, -40~85°C; DESC: https://www.minmax.com.tw/en/download/files/456/MDWI03_Datasheet.pdf; MANF_P#: MDWI03-24S033; VALUE: MDWI03-24S033
footprint MINMAX_MDWI03 (DC-DC Module, MINMAX MDWI03)
pins: 1 -VIN, 2 ON/OFF, 7 NC, 8 NC, 9 +VOUT, 10 -VOUT, 16 +VIN
text: MDWI03

## MDWI03-48D05
designator U?  (value not drawn)
DC-DC Converter, Isolated, 3W; MANF: MINMAX; PARAM2: 18~75(48)Vin, ±5Vout, 3W; PARAM: ±300mA, -40~85°C; DESC: https://www.minmax.com.tw/en/download/files/456/MDWI03_Datasheet.pdf; MANF_P#: MDWI03-48D05; VALUE: MDWI03-48D05
footprint MINMAX_MDWI03 (DC-DC Module, MINMAX MDWI03)
pins: 1 -VIN, 2 ON/OFF, 7 NC, 8 COM, 9 +VOUT, 10 -VOUT, 16 +VIN
text: MDWI03-D

## MDWI03-48D12
designator U?  (value not drawn)
DC-DC Converter, Isolated, 3W; MANF: MINMAX; PARAM2: 18~75(48)Vin, ±12Vout, 3W; PARAM: ±125mA, -40~85°C; DESC: https://www.minmax.com.tw/en/download/files/456/MDWI03_Datasheet.pdf; MANF_P#: MDWI03-48D12; VALUE: MDWI03-48D12
footprint MINMAX_MDWI03 (DC-DC Module, MINMAX MDWI03)
pins: 1 -VIN, 2 ON/OFF, 7 NC, 8 COM, 9 +VOUT, 10 -VOUT, 16 +VIN
text: MDWI03-D

## MDWI03-48D15
designator U?  (value not drawn)
DC-DC Converter, Isolated, 3W; MANF: MINMAX; PARAM2: 18~75(48)Vin, ±15Vout, 3W; PARAM: ±100mA, -40~85°C; DESC: https://www.minmax.com.tw/en/download/files/456/MDWI03_Datasheet.pdf; MANF_P#: MDWI03-48D15; VALUE: MDWI03-48D15
footprint MINMAX_MDWI03 (DC-DC Module, MINMAX MDWI03)
pins: 1 -VIN, 2 ON/OFF, 7 NC, 8 COM, 9 +VOUT, 10 -VOUT, 16 +VIN
text: MDWI03-D

## MDWI03-48S05
designator U?  (value not drawn)
DC-DC Converter, Isolated, 3W; MANF: MINMAX; PARAM2: 18~75(48)Vin, 5Vout, 3W; PARAM: 600mA, -40~85°C; DESC: https://www.minmax.com.tw/en/download/files/456/MDWI03_Datasheet.pdf; MANF_P#: MDWI03-48S05; VALUE: MDWI03-48S05
footprint MINMAX_MDWI03 (DC-DC Module, MINMAX MDWI03)
pins: 1 -VIN, 2 ON/OFF, 7 NC, 8 NC, 9 +VOUT, 10 -VOUT, 16 +VIN
text: MDWI03

## MDWI03-48S12
designator U?  (value not drawn)
DC-DC Converter, Isolated, 3W; MANF: MINMAX; PARAM2: 18~75(48)Vin, 12Vout, 3W; PARAM: 250mA, -40~85°C; DESC: https://www.minmax.com.tw/en/download/files/456/MDWI03_Datasheet.pdf; MANF_P#: MDWI03-48S12; VALUE: MDWI03-48S12
footprint MINMAX_MDWI03 (DC-DC Module, MINMAX MDWI03)
pins: 1 -VIN, 2 ON/OFF, 7 NC, 8 NC, 9 +VOUT, 10 -VOUT, 16 +VIN
text: MDWI03

## MDWI03-48S15
designator U?  (value not drawn)
DC-DC Converter, Isolated, 3W; MANF: MINMAX; PARAM2: 18~75(48)Vin, 15Vout, 3W; PARAM: 200mA, -40~85°C; DESC: https://www.minmax.com.tw/en/download/files/456/MDWI03_Datasheet.pdf; MANF_P#: MDWI03-48S15; VALUE: MDWI03-48S15
footprint MINMAX_MDWI03 (DC-DC Module, MINMAX MDWI03)
pins: 1 -VIN, 2 ON/OFF, 7 NC, 8 NC, 9 +VOUT, 10 -VOUT, 16 +VIN
text: MDWI03

## MDWI03-48S24
designator U?  (value not drawn)
DC-DC Converter, Isolated, 3W; MANF: MINMAX; PARAM2: 18~75(48)Vin, 24Vout, 3W; PARAM: 125mA, -40~85°C; DESC: https://www.minmax.com.tw/en/download/files/456/MDWI03_Datasheet.pdf; MANF_P#: MDWI03-48S24; VALUE: MDWI03-48S24
footprint MINMAX_MDWI03 (DC-DC Module, MINMAX MDWI03)
pins: 1 -VIN, 2 ON/OFF, 7 NC, 8 NC, 9 +VOUT, 10 -VOUT, 16 +VIN
text: MDWI03

## MDWI03-48S033
designator U?  (value not drawn)
DC-DC Converter, Isolated, 3W; MANF: MINMAX; PARAM2: 18~75(48)Vin, 3.3Vout, 3W; PARAM: 600mA, -40~85°C; DESC: https://www.minmax.com.tw/en/download/files/456/MDWI03_Datasheet.pdf; MANF_P#: MDWI03-48S033; VALUE: MDWI03-48S033
footprint MINMAX_MDWI03 (DC-DC Module, MINMAX MDWI03)
pins: 1 -VIN, 2 ON/OFF, 7 NC, 8 NC, 9 +VOUT, 10 -VOUT, 16 +VIN
text: MDWI03

## MIW5021
designator U?  (value not drawn)
DC-DC Converter, Isolated, 10W; MANF: MinMax; PARAM2: 9~18(12)Vin, 3.3Vout, 10W; PARAM: 3000mA, -40~60°C; DESC: http://www.sail-well.com/upfiles/MIW5000.pdf; MANF_P#: MIW5021; VALUE: MIW5021
footprint MINMAX_MIW345 (MINMAX_MIW3000 MIW4000 MIW5000)
pins: 2 VIN-, 3 VIN-, 9 NC#9, 11 NC#11, 14 +VOUT, 16 VOUT-, 22 VIN+, 23 VIN+
text: MINMAX; MIW5000

## MIW5022
designator U?  (value not drawn)
DC-DC Converter, Isolated, 10W; MANF: MinMax; PARAM2: 9~18(12)Vin, 5Vout, 10W; PARAM: 2000mA, -40~60°C; DESC: http://www.sail-well.com/upfiles/MIW5000.pdf; MANF_P#: MIW5022; VALUE: MIW5022
footprint MINMAX_MIW345 (MINMAX_MIW3000 MIW4000 MIW5000)
pins: 2 VIN-, 3 VIN-, 9 NC#9, 11 NC#11, 14 +VOUT, 16 VOUT-, 22 VIN+, 23 VIN+
text: MINMAX; MIW5000

## MIW5023
designator U?  (value not drawn)
DC-DC Converter, Isolated, 10W; MANF: MinMax; PARAM2: 9~18(12)Vin, 12Vout, 10W; PARAM: 833mA, -40~60°C; DESC: http://www.sail-well.com/upfiles/MIW5000.pdf; MANF_P#: MIW5023; VALUE: MIW5023
footprint MINMAX_MIW345 (MINMAX_MIW3000 MIW4000 MIW5000)
pins: 2 VIN-, 3 VIN-, 9 NC#9, 11 NC#11, 14 +VOUT, 16 VOUT-, 22 VIN+, 23 VIN+
text: MINMAX; MIW5000

## MIW5024
designator U?  (value not drawn)
DC-DC Converter, Isolated, 10W; MANF: MinMax; PARAM2: 9~18(12)Vin, 15Vout, 10W; PARAM: 666mA, -40~60°C; DESC: http://www.sail-well.com/upfiles/MIW5000.pdf; MANF_P#: MIW5024; VALUE: MIW5024
footprint MINMAX_MIW345 (MINMAX_MIW3000 MIW4000 MIW5000)
pins: 2 VIN-, 3 VIN-, 9 NC#9, 11 NC#11, 14 +VOUT, 16 VOUT-, 22 VIN+, 23 VIN+
text: MINMAX; MIW5000

## MIW5026
designator U?  (value not drawn)
DC-DC Converter, Isolated, 10W; MANF: MinMax; PARAM2: 9~18(12)Vin, ±12Vout, 10W; PARAM: ±416mA, -40~60°C; DESC: http://www.sail-well.com/upfiles/MIW5000.pdf; MANF_P#: MIW5026; VALUE: MIW5026
footprint MINMAX_MIW345 (MINMAX_MIW3000 MIW4000 MIW5000)
pins: 2 VIN-, 3 VIN-, 9 COMMON, 11 -VOUT, 14 +VOUT, 16 COMMON, 22 VIN+, 23 VIN+
text: MINMAX; MIW5000

## MIW5027
designator U?  (value not drawn)
DC-DC Converter, Isolated, 10W; MANF: MinMax; PARAM2: 9~18(12)Vin, ±15Vout, 10W; PARAM: ±333mA, -40~60°C; DESC: http://www.sail-well.com/upfiles/MIW5000.pdf; MANF_P#: MIW5027; VALUE: MIW5027
footprint MINMAX_MIW345 (MINMAX_MIW3000 MIW4000 MIW5000)
pins: 2 VIN-, 3 VIN-, 9 COMMON, 11 -VOUT, 14 +VOUT, 16 COMMON, 22 VIN+, 23 VIN+
text: MINMAX; MIW5000

## MIW5029
designator U?  (value not drawn)
DC-DC Converter, Isolated, 10W; MANF: MinMax; PARAM2: 9~18(12)Vin, 5.1Vout, 10W; PARAM: 2000mA, -40~60°C; DESC: http://www.sail-well.com/upfiles/MIW5000.pdf; MANF_P#: MIW5029; VALUE: MIW5029
footprint MINMAX_MIW345 (MINMAX_MIW3000 MIW4000 MIW5000)
pins: 2 VIN-, 3 VIN-, 9 NC#9, 11 NC#11, 14 +VOUT, 16 VOUT-, 22 VIN+, 23 VIN+
text: MINMAX; MIW5000

## MIW5031
designator U?  (value not drawn)
DC-DC Converter, Isolated, 10W; MANF: MinMax; PARAM2: 18~36(24)Vin, 3.3Vout, 10W; PARAM: 3000mA, -40~60°C; DESC: http://www.sail-well.com/upfiles/MIW5000.pdf; MANF_P#: MIW5031; VALUE: MIW5031
footprint MINMAX_MIW345 (MINMAX_MIW3000 MIW4000 MIW5000)
pins: 2 VIN-, 3 VIN-, 9 NC#9, 11 NC#11, 14 +VOUT, 16 VOUT-, 22 VIN+, 23 VIN+
text: MINMAX; MIW5000

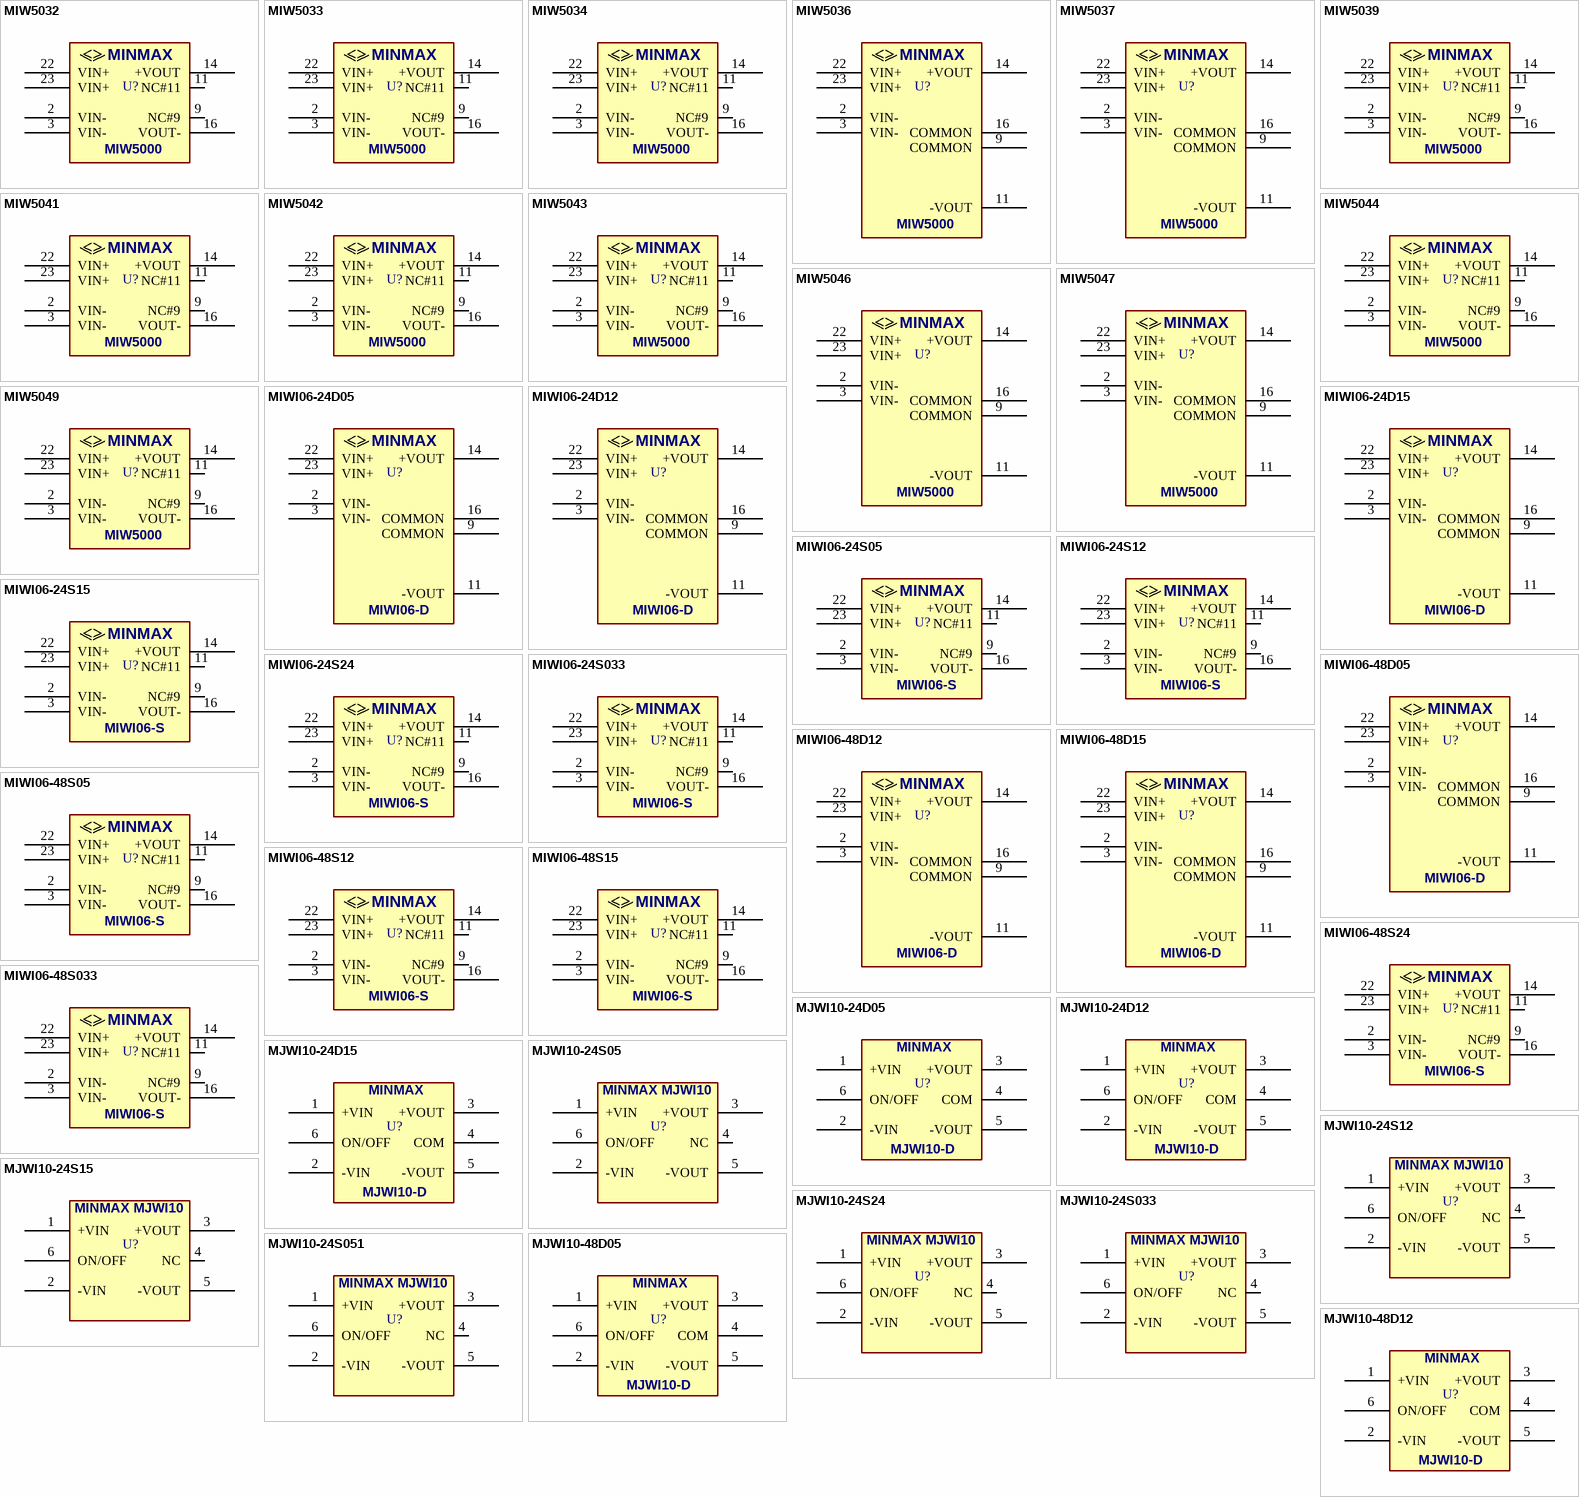
[diagram p2: symbols MIW5032 to MJWI10-48D12]

## MIW5032
designator U?  (value not drawn)
DC-DC Converter, Isolated, 10W; MANF: MinMax; PARAM2: 18~36(24)Vin, 5Vout, 10W; PARAM: 2000mA, -40~60°C; DESC: http://www.sail-well.com/upfiles/MIW5000.pdf; MANF_P#: MIW5032; VALUE: MIW5032
footprint MINMAX_MIW345 (MINMAX_MIW3000 MIW4000 MIW5000)
pins: 2 VIN-, 3 VIN-, 9 NC#9, 11 NC#11, 14 +VOUT, 16 VOUT-, 22 VIN+, 23 VIN+
text: MINMAX; MIW5000

## MIW5033
designator U?  (value not drawn)
DC-DC Converter, Isolated, 10W; MANF: MinMax; PARAM2: 18~36(24)Vin, 12Vout, 10W; PARAM: 833mA, -40~60°C; DESC: http://www.sail-well.com/upfiles/MIW5000.pdf; MANF_P#: MIW5033; VALUE: MIW5033
footprint MINMAX_MIW345 (MINMAX_MIW3000 MIW4000 MIW5000)
pins: 2 VIN-, 3 VIN-, 9 NC#9, 11 NC#11, 14 +VOUT, 16 VOUT-, 22 VIN+, 23 VIN+
text: MINMAX; MIW5000

## MIW5034
designator U?  (value not drawn)
DC-DC Converter, Isolated, 10W; MANF: MinMax; PARAM2: 18~36(24)Vin, 15Vout, 10W; PARAM: 666mA, -40~60°C; DESC: http://www.sail-well.com/upfiles/MIW5000.pdf; MANF_P#: MIW5034; VALUE: MIW5034
footprint MINMAX_MIW345 (MINMAX_MIW3000 MIW4000 MIW5000)
pins: 2 VIN-, 3 VIN-, 9 NC#9, 11 NC#11, 14 +VOUT, 16 VOUT-, 22 VIN+, 23 VIN+
text: MINMAX; MIW5000

## MIW5036
designator U?  (value not drawn)
DC-DC Converter, Isolated, 10W; MANF: MinMax; PARAM2: 18~36(24)Vin, ±12Vout, 10W; PARAM: ±416mA, -40~60°C; DESC: http://www.sail-well.com/upfiles/MIW5000.pdf; MANF_P#: MIW5036; VALUE: MIW5036
footprint MINMAX_MIW345 (MINMAX_MIW3000 MIW4000 MIW5000)
pins: 2 VIN-, 3 VIN-, 9 COMMON, 11 -VOUT, 14 +VOUT, 16 COMMON, 22 VIN+, 23 VIN+
text: MINMAX; MIW5000

## MIW5037
designator U?  (value not drawn)
DC-DC Converter, Isolated, 10W; MANF: MinMax; PARAM2: 18~36(24)Vin, ±15Vout, 10W; PARAM: ±333mA, -40~60°C; DESC: http://www.sail-well.com/upfiles/MIW5000.pdf; MANF_P#: MIW5037; VALUE: MIW5037
footprint MINMAX_MIW345 (MINMAX_MIW3000 MIW4000 MIW5000)
pins: 2 VIN-, 3 VIN-, 9 COMMON, 11 -VOUT, 14 +VOUT, 16 COMMON, 22 VIN+, 23 VIN+
text: MINMAX; MIW5000

## MIW5039
designator U?  (value not drawn)
DC-DC Converter, Isolated, 10W; MANF: MinMax; PARAM2: 18~36(24)Vin, 5.1Vout, 10W; PARAM: 2000mA, -40~60°C; DESC: http://www.sail-well.com/upfiles/MIW5000.pdf; MANF_P#: MIW5039; VALUE: MIW5039
footprint MINMAX_MIW345 (MINMAX_MIW3000 MIW4000 MIW5000)
pins: 2 VIN-, 3 VIN-, 9 NC#9, 11 NC#11, 14 +VOUT, 16 VOUT-, 22 VIN+, 23 VIN+
text: MINMAX; MIW5000

## MIW5041
designator U?  (value not drawn)
DC-DC Converter, Isolated, 10W; MANF: MinMax; PARAM2: 36~75(48)Vin, 3.3Vout, 10W; PARAM: 3000mA, -40~60°C; DESC: http://www.sail-well.com/upfiles/MIW5000.pdf; MANF_P#: MIW5041; VALUE: MIW5041
footprint MINMAX_MIW345 (MINMAX_MIW3000 MIW4000 MIW5000)
pins: 2 VIN-, 3 VIN-, 9 NC#9, 11 NC#11, 14 +VOUT, 16 VOUT-, 22 VIN+, 23 VIN+
text: MINMAX; MIW5000

## MIW5042
designator U?  (value not drawn)
DC-DC Converter, Isolated, 10W; MANF: MinMax; PARAM2: 36~75(48)Vin, 5Vout, 10W; PARAM: 2000mA, -40~60°C; DESC: http://www.sail-well.com/upfiles/MIW5000.pdf; MANF_P#: MIW5042; VALUE: MIW5042
footprint MINMAX_MIW345 (MINMAX_MIW3000 MIW4000 MIW5000)
pins: 2 VIN-, 3 VIN-, 9 NC#9, 11 NC#11, 14 +VOUT, 16 VOUT-, 22 VIN+, 23 VIN+
text: MINMAX; MIW5000

## MIW5043
designator U?  (value not drawn)
DC-DC Converter, Isolated, 10W; MANF: MinMax; PARAM2: 36~75(48)Vin, 12Vout, 10W; PARAM: 833mA, -40~60°C; DESC: http://www.sail-well.com/upfiles/MIW5000.pdf; MANF_P#: MIW5043; VALUE: MIW5043
footprint MINMAX_MIW345 (MINMAX_MIW3000 MIW4000 MIW5000)
pins: 2 VIN-, 3 VIN-, 9 NC#9, 11 NC#11, 14 +VOUT, 16 VOUT-, 22 VIN+, 23 VIN+
text: MINMAX; MIW5000

## MIW5044
designator U?  (value not drawn)
DC-DC Converter, Isolated, 10W; MANF: MinMax; PARAM2: 36~75(48)Vin, 15Vout, 10W; PARAM: 666mA, -40~60°C; DESC: http://www.sail-well.com/upfiles/MIW5000.pdf; MANF_P#: MIW5044; VALUE: MIW5044
footprint MINMAX_MIW345 (MINMAX_MIW3000 MIW4000 MIW5000)
pins: 2 VIN-, 3 VIN-, 9 NC#9, 11 NC#11, 14 +VOUT, 16 VOUT-, 22 VIN+, 23 VIN+
text: MINMAX; MIW5000

## MIW5046
designator U?  (value not drawn)
DC-DC Converter, Isolated, 10W; MANF: MinMax; PARAM2: 36~75(48)Vin, ±12Vout, 10W; PARAM: ±416mA, -40~60°C; DESC: http://www.sail-well.com/upfiles/MIW5000.pdf; MANF_P#: MIW5046; VALUE: MIW5046
footprint MINMAX_MIW345 (MINMAX_MIW3000 MIW4000 MIW5000)
pins: 2 VIN-, 3 VIN-, 9 COMMON, 11 -VOUT, 14 +VOUT, 16 COMMON, 22 VIN+, 23 VIN+
text: MINMAX; MIW5000

## MIW5047
designator U?  (value not drawn)
DC-DC Converter, Isolated, 10W; MANF: MinMax; PARAM2: 36~75(48)Vin, ±15Vout, 10W; PARAM: ±333mA, -40~60°C; DESC: http://www.sail-well.com/upfiles/MIW5000.pdf; MANF_P#: MIW5047; VALUE: MIW5047
footprint MINMAX_MIW345 (MINMAX_MIW3000 MIW4000 MIW5000)
pins: 2 VIN-, 3 VIN-, 9 COMMON, 11 -VOUT, 14 +VOUT, 16 COMMON, 22 VIN+, 23 VIN+
text: MINMAX; MIW5000

## MIW5049
designator U?  (value not drawn)
DC-DC Converter, Isolated, 10W; MANF: MinMax; PARAM2: 36~75(48)Vin, 5.1Vout, 10W; PARAM: 2000mA, -40~60°C; DESC: http://www.sail-well.com/upfiles/MIW5000.pdf; MANF_P#: MIW5049; VALUE: MIW5049
footprint MINMAX_MIW345 (MINMAX_MIW3000 MIW4000 MIW5000)
pins: 2 VIN-, 3 VIN-, 9 NC#9, 11 NC#11, 14 +VOUT, 16 VOUT-, 22 VIN+, 23 VIN+
text: MINMAX; MIW5000

## MIWI06-24D05
designator U?  (value not drawn)
DC-DC Converter, Isolated, 6W; MANF: MinMax; PARAM2: 9~36(24)Vin, ±5Vout, 6W; PARAM: ±500mA, -40~85°C; DESC: https://www.minmax.com.tw/en/download/files/1673/MIWI06_Datasheet.pdf; MANF_P#: MIWI06-24D05; VALUE: MIWI06-24D05
footprint MINMAX_MIW6 (DC-DC Module, MINMAX MIW6)
pins: 2 VIN-, 3 VIN-, 9 COMMON, 11 -VOUT, 14 +VOUT, 16 COMMON, 22 VIN+, 23 VIN+
text: MINMAX; MIWI06-D

## MIWI06-24D12
designator U?  (value not drawn)
DC-DC Converter, Isolated, 6W; MANF: MinMax; PARAM2: 9~36(24)Vin, ±12Vout, 6W; PARAM: ±250mA, -40~85°C; DESC: https://www.minmax.com.tw/en/download/files/1673/MIWI06_Datasheet.pdf; MANF_P#: MIWI06-24D12; VALUE: MIWI06-24D12
footprint MINMAX_MIW6 (DC-DC Module, MINMAX MIW6)
pins: 2 VIN-, 3 VIN-, 9 COMMON, 11 -VOUT, 14 +VOUT, 16 COMMON, 22 VIN+, 23 VIN+
text: MINMAX; MIWI06-D

## MIWI06-24D15
designator U?  (value not drawn)
DC-DC Converter, Isolated, 6W; MANF: MinMax; PARAM2: 9~36(24)Vin, ±15Vout, 6W; PARAM: ±200mA, -40~85°C; DESC: https://www.minmax.com.tw/en/download/files/1673/MIWI06_Datasheet.pdf; MANF_P#: MIWI06-24D15; VALUE: MIWI06-24D15
footprint MINMAX_MIW6 (DC-DC Module, MINMAX MIW6)
pins: 2 VIN-, 3 VIN-, 9 COMMON, 11 -VOUT, 14 +VOUT, 16 COMMON, 22 VIN+, 23 VIN+
text: MINMAX; MIWI06-D

## MIWI06-24S05
designator U?  (value not drawn)
DC-DC Converter, Isolated, 6W; MANF: MinMax; PARAM2: 9~36(24)Vin, 5Vout, 6W; PARAM: 1200mA, -40~85°C; DESC: https://www.minmax.com.tw/en/download/files/1673/MIWI06_Datasheet.pdf; MANF_P#: MIWI06-24S05; VALUE: MIWI06-24S05
footprint MINMAX_MIW6 (DC-DC Module, MINMAX MIW6)
pins: 2 VIN-, 3 VIN-, 9 NC#9, 11 NC#11, 14 +VOUT, 16 VOUT-, 22 VIN+, 23 VIN+
text: MINMAX; MIWI06-S

## MIWI06-24S12
designator U?  (value not drawn)
DC-DC Converter, Isolated, 6W; MANF: MinMax; PARAM2: 9~36(24)Vin, 12Vout, 6W; PARAM: 1200mA, -40~85°C; DESC: https://www.minmax.com.tw/en/download/files/1673/MIWI06_Datasheet.pdf; MANF_P#: MIWI06-24S12; VALUE: MIWI06-24S12
footprint MINMAX_MIW6 (DC-DC Module, MINMAX MIW6)
pins: 2 VIN-, 3 VIN-, 9 NC#9, 11 NC#11, 14 +VOUT, 16 VOUT-, 22 VIN+, 23 VIN+
text: MINMAX; MIWI06-S

## MIWI06-24S15
designator U?  (value not drawn)
DC-DC Converter, Isolated, 6W; MANF: MinMax; PARAM2: 9~36(24)Vin, 15Vout, 6W; PARAM: 500mA, -40~85°C; DESC: https://www.minmax.com.tw/en/download/files/1673/MIWI06_Datasheet.pdf; MANF_P#: MIWI06-24S15; VALUE: MIWI06-24S15
footprint MINMAX_MIW6 (DC-DC Module, MINMAX MIW6)
pins: 2 VIN-, 3 VIN-, 9 NC#9, 11 NC#11, 14 +VOUT, 16 VOUT-, 22 VIN+, 23 VIN+
text: MINMAX; MIWI06-S

## MIWI06-24S24
designator U?  (value not drawn)
DC-DC Converter, Isolated, 6W; MANF: MinMax; PARAM2: 9~36(24)Vin, 24Vout, 6W; PARAM: 400mA, -40~85°C; DESC: https://www.minmax.com.tw/en/download/files/1673/MIWI06_Datasheet.pdf; MANF_P#: MIWI06-24S24; VALUE: MIWI06-24S24
footprint MINMAX_MIW6 (DC-DC Module, MINMAX MIW6)
pins: 2 VIN-, 3 VIN-, 9 NC#9, 11 NC#11, 14 +VOUT, 16 VOUT-, 22 VIN+, 23 VIN+
text: MINMAX; MIWI06-S

## MIWI06-24S033
designator U?  (value not drawn)
DC-DC Converter, Isolated, 6W; MANF: MinMax; PARAM2: 9~36(24)Vin, 3.3Vout, 6W; PARAM: 250mA, -40~85°C; DESC: https://www.minmax.com.tw/en/download/files/1673/MIWI06_Datasheet.pdf; MANF_P#: MIWI06-24S033; VALUE: MIWI06-24S033
footprint MINMAX_MIW6 (DC-DC Module, MINMAX MIW6)
pins: 2 VIN-, 3 VIN-, 9 NC#9, 11 NC#11, 14 +VOUT, 16 VOUT-, 22 VIN+, 23 VIN+
text: MINMAX; MIWI06-S

## MIWI06-48D05
designator U?, comment MIWI06-24D05  (value not drawn)
DC-DC Converter, Isolated, 6W; MANF: MinMax; PARAM2: 18~75(48)Vin, ±5Vout, 6W; PARAM: ±500mA, -40~85°C; DESC: https://www.minmax.com.tw/en/download/files/1673/MIWI06_Datasheet.pdf; MANF_P#: MIWI06-24D05; VALUE: MIWI06-24D05
footprint MINMAX_MIW6 (DC-DC Module, MINMAX MIW6)
pins: 2 VIN-, 3 VIN-, 9 COMMON, 11 -VOUT, 14 +VOUT, 16 COMMON, 22 VIN+, 23 VIN+
text: MINMAX; MIWI06-D

## MIWI06-48D12
designator U?, comment MIWI06-24D12  (value not drawn)
DC-DC Converter, Isolated, 6W; MANF: MinMax; PARAM2: 18~75(48)Vin, ±12Vout, 6W; PARAM: ±250mA, -40~85°C; DESC: https://www.minmax.com.tw/en/download/files/1673/MIWI06_Datasheet.pdf; MANF_P#: MIWI06-24D12; VALUE: MIWI06-24D12
footprint MINMAX_MIW6 (DC-DC Module, MINMAX MIW6)
pins: 2 VIN-, 3 VIN-, 9 COMMON, 11 -VOUT, 14 +VOUT, 16 COMMON, 22 VIN+, 23 VIN+
text: MINMAX; MIWI06-D

## MIWI06-48D15
designator U?, comment MIWI06-24D15  (value not drawn)
DC-DC Converter, Isolated, 6W; MANF: MinMax; PARAM2: 18~75(48)Vin, ±15Vout, 6W; PARAM: ±200mA, -40~85°C; DESC: https://www.minmax.com.tw/en/download/files/1673/MIWI06_Datasheet.pdf; MANF_P#: MIWI06-24D15; VALUE: MIWI06-24D15
footprint MINMAX_MIW6 (DC-DC Module, MINMAX MIW6)
pins: 2 VIN-, 3 VIN-, 9 COMMON, 11 -VOUT, 14 +VOUT, 16 COMMON, 22 VIN+, 23 VIN+
text: MINMAX; MIWI06-D

## MIWI06-48S05
designator U?, comment MIWI06-24S05  (value not drawn)
DC-DC Converter, Isolated, 6W; MANF: MinMax; PARAM2: 18~75(48)Vin, 5Vout, 6W; PARAM: 1200mA, -40~85°C; DESC: https://www.minmax.com.tw/en/download/files/1673/MIWI06_Datasheet.pdf; MANF_P#: MIWI06-24S05; VALUE: MIWI06-24S05
footprint MINMAX_MIW6 (DC-DC Module, MINMAX MIW6)
pins: 2 VIN-, 3 VIN-, 9 NC#9, 11 NC#11, 14 +VOUT, 16 VOUT-, 22 VIN+, 23 VIN+
text: MINMAX; MIWI06-S

## MIWI06-48S12
designator U?, comment MIWI06-24S12  (value not drawn)
DC-DC Converter, Isolated, 6W; MANF: MinMax; PARAM2: 18~75(48)Vin, 12Vout, 6W; PARAM: 1200mA, -40~85°C; DESC: https://www.minmax.com.tw/en/download/files/1673/MIWI06_Datasheet.pdf; MANF_P#: MIWI06-24S12; VALUE: MIWI06-24S12
footprint MINMAX_MIW6 (DC-DC Module, MINMAX MIW6)
pins: 2 VIN-, 3 VIN-, 9 NC#9, 11 NC#11, 14 +VOUT, 16 VOUT-, 22 VIN+, 23 VIN+
text: MINMAX; MIWI06-S

## MIWI06-48S15
designator U?, comment MIWI06-24S15  (value not drawn)
DC-DC Converter, Isolated, 6W; MANF: MinMax; PARAM2: 18~75(48)Vin, 15Vout, 6W; PARAM: 500mA, -40~85°C; DESC: https://www.minmax.com.tw/en/download/files/1673/MIWI06_Datasheet.pdf; MANF_P#: MIWI06-24S15; VALUE: MIWI06-24S15
footprint MINMAX_MIW6 (DC-DC Module, MINMAX MIW6)
pins: 2 VIN-, 3 VIN-, 9 NC#9, 11 NC#11, 14 +VOUT, 16 VOUT-, 22 VIN+, 23 VIN+
text: MINMAX; MIWI06-S

## MIWI06-48S24
designator U?, comment MIWI06-24S24  (value not drawn)
DC-DC Converter, Isolated, 6W; MANF: MinMax; PARAM2: 18~75(48)Vin, 24Vout, 6W; PARAM: 400mA, -40~85°C; DESC: https://www.minmax.com.tw/en/download/files/1673/MIWI06_Datasheet.pdf; MANF_P#: MIWI06-24S24; VALUE: MIWI06-24S24
footprint MINMAX_MIW6 (DC-DC Module, MINMAX MIW6)
pins: 2 VIN-, 3 VIN-, 9 NC#9, 11 NC#11, 14 +VOUT, 16 VOUT-, 22 VIN+, 23 VIN+
text: MINMAX; MIWI06-S

## MIWI06-48S033
designator U?, comment MIWI06-24S033  (value not drawn)
DC-DC Converter, Isolated, 6W; MANF: MinMax; PARAM2: 18~75(48)Vin, 3.3Vout, 6W; PARAM: 250mA, -40~85°C; DESC: https://www.minmax.com.tw/en/download/files/1673/MIWI06_Datasheet.pdf; MANF_P#: MIWI06-24S033; VALUE: MIWI06-24S033
footprint MINMAX_MIW6 (DC-DC Module, MINMAX MIW6)
pins: 2 VIN-, 3 VIN-, 9 NC#9, 11 NC#11, 14 +VOUT, 16 VOUT-, 22 VIN+, 23 VIN+
text: MINMAX; MIWI06-S

## MJWI10-24D05
designator U?, comment MJWI10-24S05  (value not drawn)
DC-DC Converter, Isolated, 10W; MANF: MINMAX; PARAM2: 9~36(24)Vin, ±5Vout, 10W; PARAM: ±1000mA, -40~80°C; DESC: https://www.minmax.com.tw/en/download/files/546/MJWI10_Datasheet.pdf; MANF_P#: MJWI10-24S05; VALUE: MJWI10-24S05
footprint MINMAX_MJWI10 (DC-DC Module, 25.4X25.4mm, =PDQ15-D)
pins: 1 +VIN, 2 -VIN, 3 +VOUT, 4 COM, 5 -VOUT, 6 ON/OFF
text: MJWI10-D

## MJWI10-24D12
designator U?, comment MJWI10-24S05  (value not drawn)
DC-DC Converter, Isolated, 10W; MANF: MINMAX; PARAM2: 9~36(24)Vin, ±12Vout, 10W; PARAM: ±410mA, -40~80°C; DESC: https://www.minmax.com.tw/en/download/files/546/MJWI10_Datasheet.pdf; MANF_P#: MJWI10-24S05; VALUE: MJWI10-24S05
footprint MINMAX_MJWI10 (DC-DC Module, 25.4X25.4mm, =PDQ15-D)
pins: 1 +VIN, 2 -VIN, 3 +VOUT, 4 COM, 5 -VOUT, 6 ON/OFF
text: MJWI10-D

## MJWI10-24D15
designator U?, comment MJWI10-24S05  (value not drawn)
DC-DC Converter, Isolated, 10W; MANF: MINMAX; PARAM2: 9~36(24)Vin, ±15Vout, 10W; PARAM: ±330mA, -40~80°C; DESC: https://www.minmax.com.tw/en/download/files/546/MJWI10_Datasheet.pdf; MANF_P#: MJWI10-24S05; VALUE: MJWI10-24S05
footprint MINMAX_MJWI10 (DC-DC Module, 25.4X25.4mm, =PDQ15-D)
pins: 1 +VIN, 2 -VIN, 3 +VOUT, 4 COM, 5 -VOUT, 6 ON/OFF
text: MJWI10-D

## MJWI10-24S05
designator U?  (value not drawn)
DC-DC Converter, Isolated, 10W; MANF: MINMAX; PARAM2: 9~36(24)Vin, 5Vout, 10W; PARAM: 2000mA, -40~80°C; DESC: https://www.minmax.com.tw/en/download/files/546/MJWI10_Datasheet.pdf; MANF_P#: MJWI10-24S05; VALUE: MJWI10-24S05
footprint MINMAX_MJWI10 (DC-DC Module, 25.4X25.4mm, =PDQ15-D)
pins: 1 +VIN, 2 -VIN, 3 +VOUT, 4 NC, 5 -VOUT, 6 ON/OFF
text: MINMAX MJWI10

## MJWI10-24S12
designator U?, comment MJWI10-24S05  (value not drawn)
DC-DC Converter, Isolated, 10W; MANF: MINMAX; PARAM2: 9~36(24)Vin, 12Vout, 10W; PARAM: 830mA, -40~80°C; DESC: https://www.minmax.com.tw/en/download/files/546/MJWI10_Datasheet.pdf; MANF_P#: MJWI10-24S05; VALUE: MJWI10-24S05
footprint MINMAX_MJWI10 (DC-DC Module, 25.4X25.4mm, =PDQ15-D)
pins: 1 +VIN, 2 -VIN, 3 +VOUT, 4 NC, 5 -VOUT, 6 ON/OFF
text: MINMAX MJWI10

## MJWI10-24S15
designator U?, comment MJWI10-24S05  (value not drawn)
DC-DC Converter, Isolated, 10W; MANF: MINMAX; PARAM2: 9~36(24)Vin, 15Vout, 10W; PARAM: 660mA, -40~80°C; DESC: https://www.minmax.com.tw/en/download/files/546/MJWI10_Datasheet.pdf; MANF_P#: MJWI10-24S05; VALUE: MJWI10-24S05
footprint MINMAX_MJWI10 (DC-DC Module, 25.4X25.4mm, =PDQ15-D)
pins: 1 +VIN, 2 -VIN, 3 +VOUT, 4 NC, 5 -VOUT, 6 ON/OFF
text: MINMAX MJWI10

## MJWI10-24S24
designator U?, comment MJWI10-24S05  (value not drawn)
DC-DC Converter, Isolated, 10W; MANF: MINMAX; PARAM2: 9~36(24)Vin, 24Vout, 10W; PARAM: 410mA, -40~80°C; DESC: https://www.minmax.com.tw/en/download/files/546/MJWI10_Datasheet.pdf; MANF_P#: MJWI10-24S05; VALUE: MJWI10-24S05
footprint MINMAX_MJWI10 (DC-DC Module, 25.4X25.4mm, =PDQ15-D)
pins: 1 +VIN, 2 -VIN, 3 +VOUT, 4 NC, 5 -VOUT, 6 ON/OFF
text: MINMAX MJWI10

## MJWI10-24S033
designator U?, comment MJWI10-24S05  (value not drawn)
DC-DC Converter, Isolated, 10W; MANF: MINMAX; PARAM2: 9~36(24)Vin, 3.3Vout, 10W; PARAM: 2200mA, -40~80°C; DESC: https://www.minmax.com.tw/en/download/files/546/MJWI10_Datasheet.pdf; MANF_P#: MJWI10-24S05; VALUE: MJWI10-24S05
footprint MINMAX_MJWI10 (DC-DC Module, 25.4X25.4mm, =PDQ15-D)
pins: 1 +VIN, 2 -VIN, 3 +VOUT, 4 NC, 5 -VOUT, 6 ON/OFF
text: MINMAX MJWI10

## MJWI10-24S051
designator U?, comment MJWI10-24S05  (value not drawn)
DC-DC Converter, Isolated, 10W; MANF: MINMAX; PARAM2: 9~36(24)Vin, 5.1Vout, 10W; PARAM: 2000mA, -40~80°C; DESC: https://www.minmax.com.tw/en/download/files/546/MJWI10_Datasheet.pdf; MANF_P#: MJWI10-24S05; VALUE: MJWI10-24S05
footprint MINMAX_MJWI10 (DC-DC Module, 25.4X25.4mm, =PDQ15-D)
pins: 1 +VIN, 2 -VIN, 3 +VOUT, 4 NC, 5 -VOUT, 6 ON/OFF
text: MINMAX MJWI10

## MJWI10-48D05
designator U?  (value not drawn)
DC-DC Converter, Isolated, 10W; MANF: MINMAX; PARAM2: 18~75(48)Vin, ±5Vout, 10W; PARAM: ±1000mA, -40~80°C; DESC: https://www.minmax.com.tw/en/download/files/546/MJWI10_Datasheet.pdf; MANF_P#: MJWI10-48D05; VALUE: MJWI10-48D05
footprint MINMAX_MJWI10 (DC-DC Module, 25.4X25.4mm, =PDQ15-D)
pins: 1 +VIN, 2 -VIN, 3 +VOUT, 4 COM, 5 -VOUT, 6 ON/OFF
text: MJWI10-D

## MJWI10-48D12
designator U?  (value not drawn)
DC-DC Converter, Isolated, 10W; MANF: MINMAX; PARAM2: 18~75(48)Vin, ±12Vout, 10W; PARAM: ±410mA, -40~80°C; DESC: https://www.minmax.com.tw/en/download/files/546/MJWI10_Datasheet.pdf; MANF_P#: MJWI10-48D12; VALUE: MJWI10-48D12
footprint MINMAX_MJWI10 (DC-DC Module, 25.4X25.4mm, =PDQ15-D)
pins: 1 +VIN, 2 -VIN, 3 +VOUT, 4 COM, 5 -VOUT, 6 ON/OFF
text: MJWI10-D

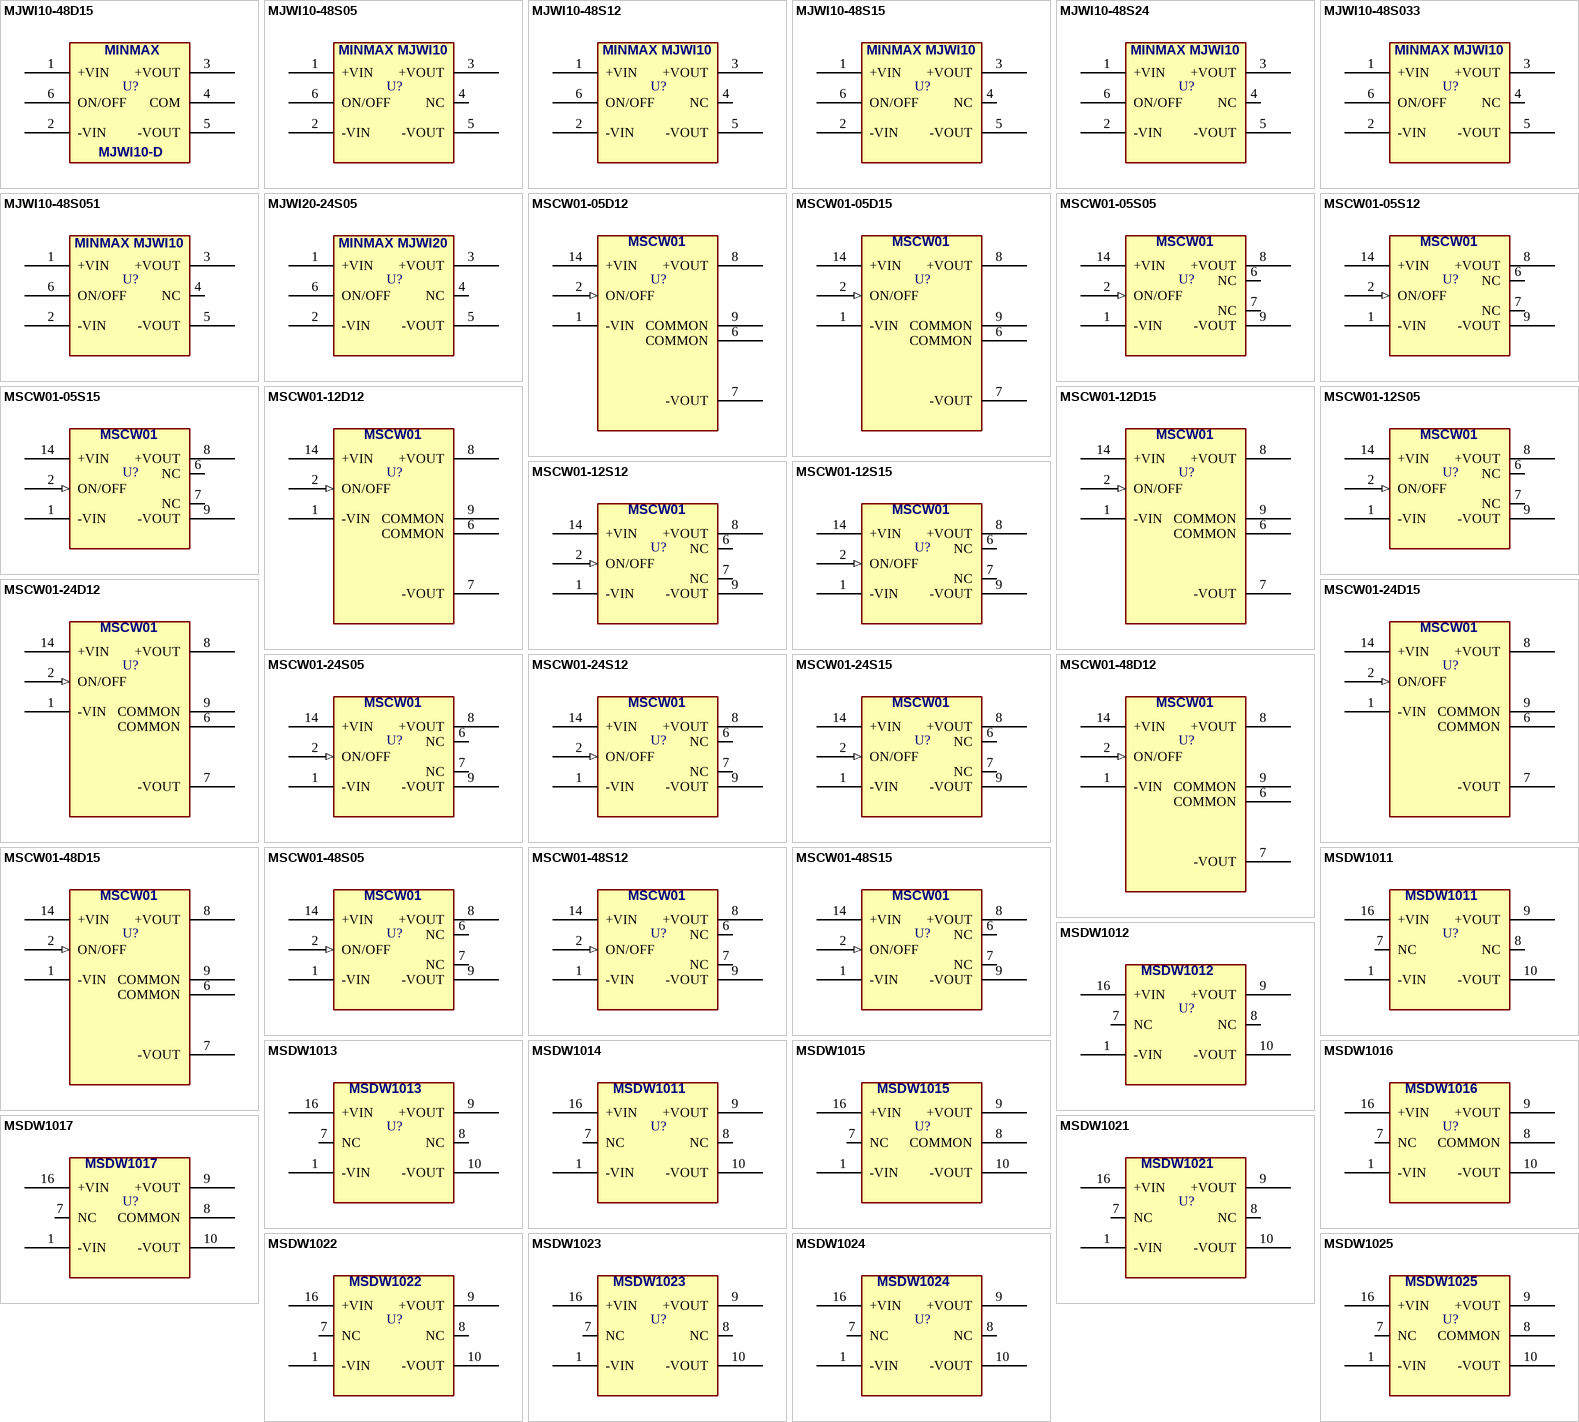
[diagram p3: symbols MJWI10-48D15 to MSDW1025]

## MJWI10-48D15
designator U?  (value not drawn)
DC-DC Converter, Isolated, 10W; MANF: MINMAX; PARAM2: 18~75(48)Vin, ±15Vout, 10W; PARAM: ±330mA, -40~80°C; DESC: https://www.minmax.com.tw/en/download/files/546/MJWI10_Datasheet.pdf; MANF_P#: MJWI10-48D15; VALUE: MJWI10-48D15
footprint MINMAX_MJWI10 (DC-DC Module, 25.4X25.4mm, =PDQ15-D)
pins: 1 +VIN, 2 -VIN, 3 +VOUT, 4 COM, 5 -VOUT, 6 ON/OFF
text: MJWI10-D

## MJWI10-48S05
designator U?  (value not drawn)
DC-DC Converter, Isolated, 10W; MANF: MINMAX; PARAM2: 18~75(48)Vin, 5Vout, 10W; PARAM: 2000mA, -40~80°C; DESC: https://www.minmax.com.tw/en/download/files/546/MJWI10_Datasheet.pdf; MANF_P#: MJWI10-48S05; VALUE: MJWI10-48S05
footprint MINMAX_MJWI10 (DC-DC Module, 25.4X25.4mm, =PDQ15-D)
pins: 1 +VIN, 2 -VIN, 3 +VOUT, 4 NC, 5 -VOUT, 6 ON/OFF
text: MINMAX MJWI10

## MJWI10-48S12
designator U?  (value not drawn)
DC-DC Converter, Isolated, 10W; MANF: MINMAX; PARAM2: 18~75(48)Vin, 12Vout, 10W; PARAM: 830mA, -40~80°C; DESC: https://www.minmax.com.tw/en/download/files/546/MJWI10_Datasheet.pdf; MANF_P#: MJWI10-48S12; VALUE: MJWI10-48S12
footprint MINMAX_MJWI10 (DC-DC Module, 25.4X25.4mm, =PDQ15-D)
pins: 1 +VIN, 2 -VIN, 3 +VOUT, 4 NC, 5 -VOUT, 6 ON/OFF
text: MINMAX MJWI10

## MJWI10-48S15
designator U?  (value not drawn)
DC-DC Converter, Isolated, 10W; MANF: MINMAX; PARAM2: 18~75(48)Vin, 15Vout, 10W; PARAM: 660mA, -40~80°C; DESC: https://www.minmax.com.tw/en/download/files/546/MJWI10_Datasheet.pdf; MANF_P#: MJWI10-48S15; VALUE: MJWI10-48S15
footprint MINMAX_MJWI10 (DC-DC Module, 25.4X25.4mm, =PDQ15-D)
pins: 1 +VIN, 2 -VIN, 3 +VOUT, 4 NC, 5 -VOUT, 6 ON/OFF
text: MINMAX MJWI10

## MJWI10-48S24
designator U?  (value not drawn)
DC-DC Converter, Isolated, 10W; MANF: MINMAX; PARAM2: 18~75(48)Vin, 24Vout, 10W; PARAM: 410mA, -40~80°C; DESC: https://www.minmax.com.tw/en/download/files/546/MJWI10_Datasheet.pdf; MANF_P#: MJWI10-48S24; VALUE: MJWI10-48S24
footprint MINMAX_MJWI10 (DC-DC Module, 25.4X25.4mm, =PDQ15-D)
pins: 1 +VIN, 2 -VIN, 3 +VOUT, 4 NC, 5 -VOUT, 6 ON/OFF
text: MINMAX MJWI10

## MJWI10-48S033
designator U?  (value not drawn)
DC-DC Converter, Isolated, 10W; MANF: MINMAX; PARAM2: 18~75(48)Vin, 3.3Vout, 10W; PARAM: 2200mA, -40~80°C; DESC: https://www.minmax.com.tw/en/download/files/546/MJWI10_Datasheet.pdf; MANF_P#: MJWI10-48S033; VALUE: MJWI10-48S033
footprint MINMAX_MJWI10 (DC-DC Module, 25.4X25.4mm, =PDQ15-D)
pins: 1 +VIN, 2 -VIN, 3 +VOUT, 4 NC, 5 -VOUT, 6 ON/OFF
text: MINMAX MJWI10

## MJWI10-48S051
designator U?  (value not drawn)
DC-DC Converter, Isolated, 10W; MANF: MINMAX; PARAM2: 18~75(48)Vin, 5.1Vout, 10W; PARAM: 2000mA, -40~80°C; DESC: https://www.minmax.com.tw/en/download/files/546/MJWI10_Datasheet.pdf; MANF_P#: MJWI10-48S051; VALUE: MJWI10-48S051
footprint MINMAX_MJWI10 (DC-DC Module, 25.4X25.4mm, =PDQ15-D)
pins: 1 +VIN, 2 -VIN, 3 +VOUT, 4 NC, 5 -VOUT, 6 ON/OFF
text: MINMAX MJWI10

## MJWI20-24S05
designator U?  (value not drawn)
DC-DC Converter, Isolated, 20W; MANF: MINMAX; PARAM2: 9~36(24)Vin, 5Vout, 20W; PARAM: 4000mA, -40~85°C; DESC: https://www.minmax.com.tw/en/download/files/601/MJWI20_Datasheet.pdf; MANF_P#: MJWI20-24S05; VALUE: MJWI20-24S05
footprint MINMAX_MJWI20 (DC-DC Module, 25.4X25.4mm, =PDQ15-D)
pins: 1 +VIN, 2 -VIN, 3 +VOUT, 4 NC, 5 -VOUT, 6 ON/OFF
text: MINMAX MJWI20

## MSCW01-05D12
designator U?  (value not drawn)
DC-DC Converter, Isolated, 1W; MANF: MinMax; PARAM2: 4.5~9(5)Vin, ±12Vout, 1W; PARAM: ±42mA, -40~85°C; DESC: https://www.minmax.com.tw/en/download/files/354/MSCW01_Datasheet.pdf; MANF_P#: MSCW01-05D12; VALUE: MSCW01-05D12
footprint MINMAX_MSCW01 (DC-DC Module, MINMAX MSCW01)
pins: 1 -VIN, 2 ON/OFF (in), 6 COMMON, 7 -VOUT, 8 +VOUT, 9 COMMON, 14 +VIN
text: MSCW01